# Altium schematic symbol library TI Microcontroller 32-Bit ARM.SchLib: 163 symbols (part 1 of 10)
Pins are listed as number, name and electrical type; pins without a type are passive.

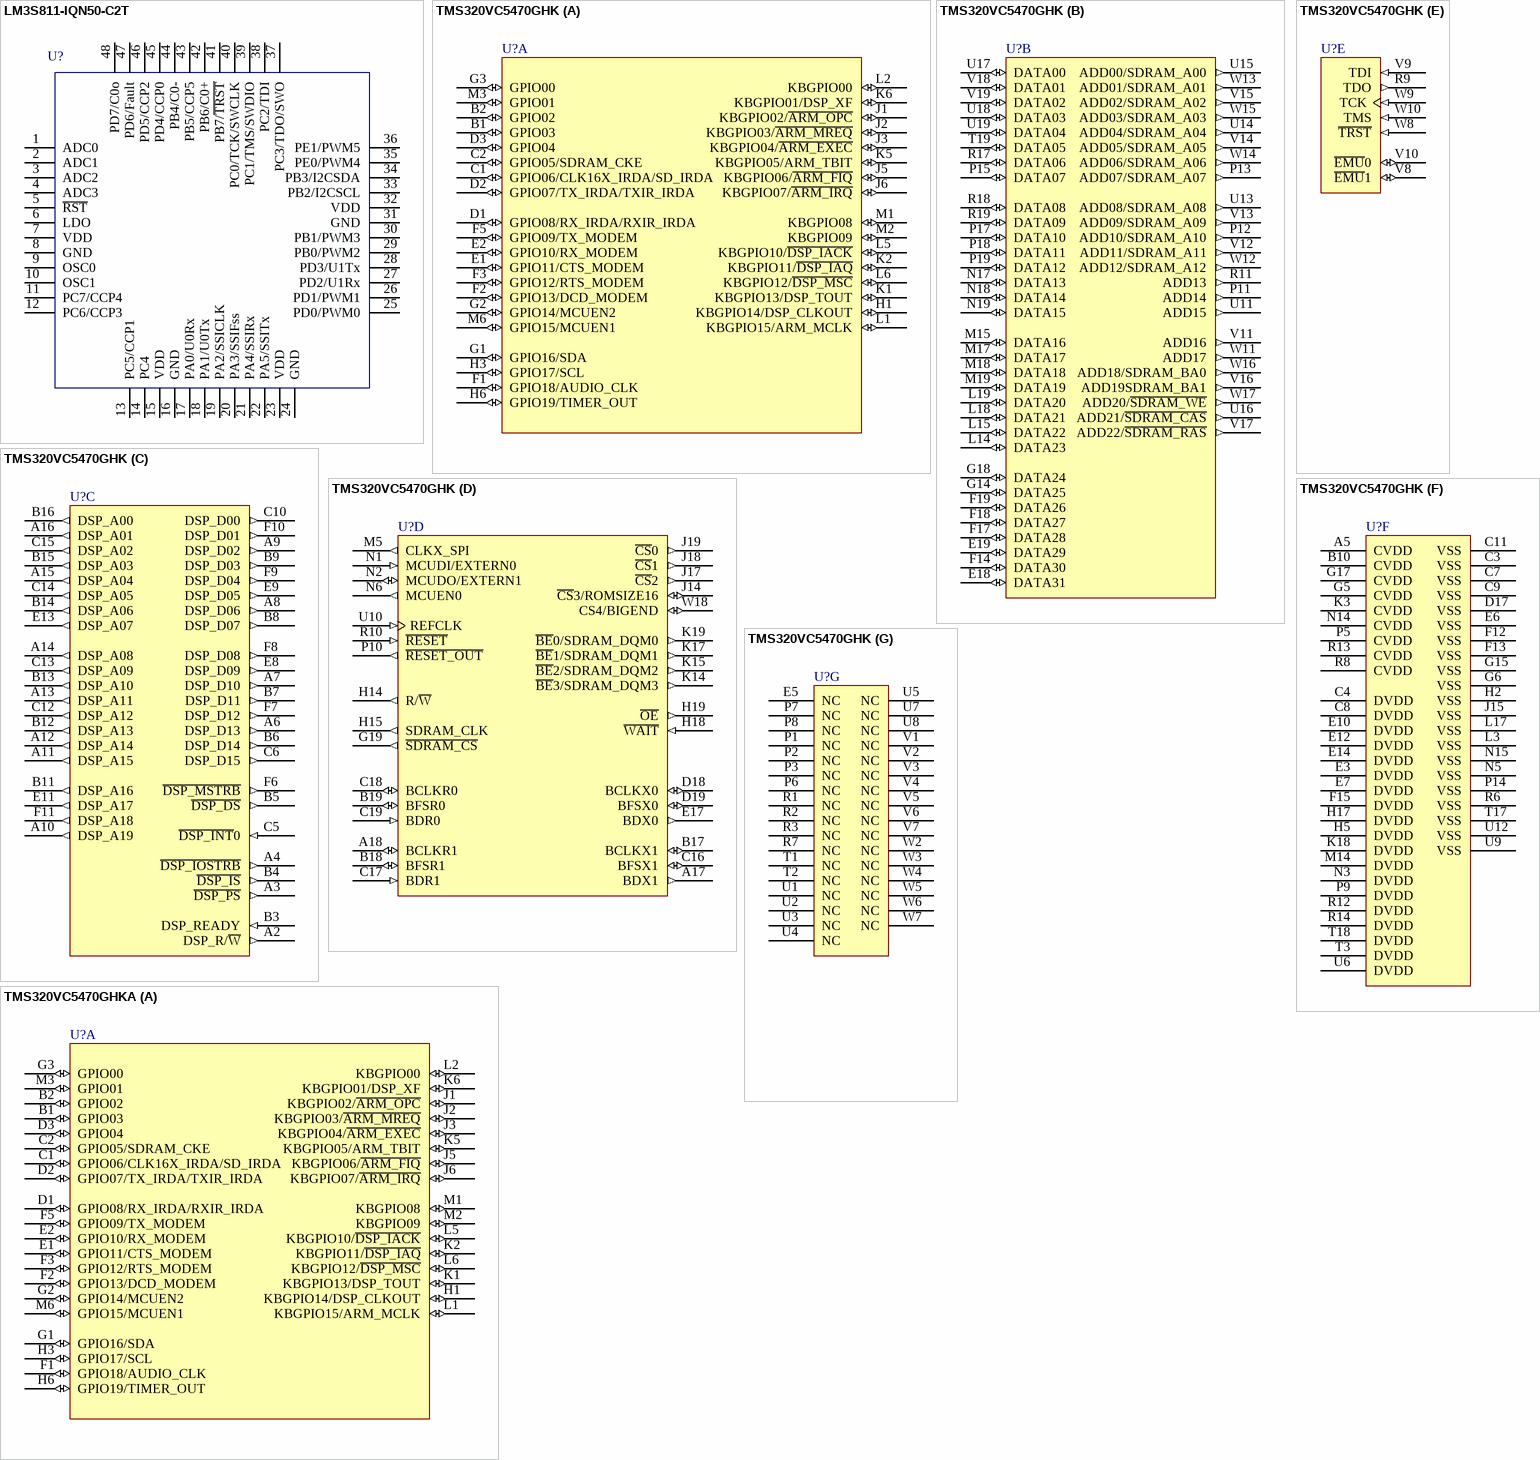
[diagram p0: symbols LM3S811-IQN50-C2T to TMS320VC5470GHKA]

## LM3S811-IQN50-C2T
designator U?
ARM? Cortex?-M3 Stellaris? ARM? Cortex?-M3S 800 Microcontroller IC 32-Bit 50MHz 64KB (64K x 8) FLASH 48-LQFP (7x7); Manufacturer: Texas Instruments; PartNumber: LM3S811-IQN50-C2T; Package: 48-LQFP; PackageDescription: 48-LQFP (7x7); Supplier 1: Digi-Key; Supplier Part Number 1: LM3S811-IQN50-C2T-ND
footprint LQFP-48 (TSQFP, 48-Leads, Body 9.0x9.0mm (max), Pitch 0.50mm, IPC Medium Density)
pins: 1 ADC0, 2 ADC1, 3 ADC2, 4 ADC3, 5 ~{RST}, 6 LDO, 7 VDD, 8 GND, 9 OSC0, 10 OSC1, 11 PC7/CCP4, 12 PC6/CCP3, 13 PC5/CCP1, 14 PC4, 15 VDD, 16 GND, 17 PA0/U0Rx, 18 PA1/U0Tx, 19 PA2/SSICLK, 20 PA3/SSIFss, 21 PA4/SSIRx, 22 PA5/SSITx, 23 VDD, 24 GND, 25 PD0/PWM0, 26 PD1/PWM1, 27 PD2/U1Rx, 28 PD3/U1Tx, 29 PB0/PWM2, 30 PB1/PWM3, 31 GND, 32 VDD, 33 PB2/I2CSCL, 34 PB3/I2CSDA, 35 PE0/PWM4, 36 PE1/PWM5, 37 PC3/TDO/SWO, 38 PC2/TDI, 39 PC1/TMS/SWDIO, 40 PC0/TCK/SWCLK, 41 PB7/~{TRST}, 42 PB6/C0+, 43 PB5/CCP5, 44 PB4/C0-, 45 PD4/CCP0, 46 PD5/CCP2, 47 PD6/Fault, 48 PD7/C0o

## TMS320VC5470GHK
designator U?
TMS320C54x DSP and ARM7TDMI 16/32-Bit RISC MCU, 72K x 16-bit SRAM, 257-ball BGA; Published: 30-Mar-2007; DatasheetVersion: revB, Dec-2002; PackageVersion: May-2005; PackageReference: GHK257; Publisher: Altium Limited; PackageDescription: 257-Ball Plastic Ball Grid Array 0.8 mm Pitch; ComponentLink1Description: Manufacturer Link; ComponentLink1URL: http://www.ti.com/; ComponentLink2Description: Datasheet; ComponentLink2URL: http://focus.ti.com/lit/ds/symlink/tms320vc5470.pdf
footprint GHK257 (BGA, 257-Leads, Body 16x16mm, Pitch 0.8mm)
part A pins: B1 GPIO03 (io), B2 GPIO02 (io), C1 GPIO06/CLK16X_IRDA/SD_IRDA (io), C2 GPIO05/SDRAM_CKE (io), D1 GPIO08/RX_IRDA/RXIR_IRDA (io), D2 GPIO07/TX_IRDA/TXIR_IRDA (io), D3 GPIO04 (io), E1 GPIO11/CTS_MODEM (io), E2 GPIO10/RX_MODEM (io), F1 GPIO18/AUDIO_CLK (io), F2 GPIO13/DCD_MODEM (io), F3 GPIO12/RTS_MODEM (io), F5 GPIO09/TX_MODEM (io), G1 GPIO16/SDA (io), G2 GPIO14/MCUEN2 (io), G3 GPIO00 (io), H1 KBGPIO14/DSP_CLKOUT (io), H3 GPIO17/SCL (io), H6 GPIO19/TIMER_OUT (io), J1 KBGPIO02/~{ARM_OPC} (io), J2 KBGPIO03/~{ARM_MREQ} (io), J3 KBGPIO04/~{ARM_EXEC} (io), J5 KBGPIO06/~{ARM_FIQ} (io), J6 KBGPIO07/~{ARM_IRQ} (io), K1 KBGPIO13/DSP_TOUT (io), K2 KBGPIO11/~{DSP_IAQ} (io), K5 KBGPIO05/ARM_TBIT (io), K6 KBGPIO01/DSP_XF (io), L1 KBGPIO15/ARM_MCLK (io), L2 KBGPIO00 (io), L5 KBGPIO10/~{DSP_IACK} (io), L6 KBGPIO12/~{DSP_MSC} (io), M1 KBGPIO08 (io), M2 KBGPIO09 (io), M3 GPIO01 (io), M6 GPIO15/MCUEN1 (io)
part B pins: E18 DATA31 (io), E19 DATA29 (io), F14 DATA30 (io), F17 DATA28 (io), F18 DATA27 (io), F19 DATA26 (io), G14 DATA25 (io), G18 DATA24 (io), L14 DATA23 (io), L15 DATA22 (io), L18 DATA21 (io), L19 DATA20 (io), M15 DATA16 (io), M17 DATA17 (io), M18 DATA18 (io), M19 DATA19 (io), N17 DATA13 (io), N18 DATA14 (io), N19 DATA15 (io), P11 ADD14 (out), P12 ADD10/SDRAM_A10 (out), P13 ADD07/SDRAM_A07 (out), P15 DATA07 (io), P17 DATA10 (io), P18 DATA11 (io), P19 DATA12 (io), R11 ADD13 (out), R17 DATA06 (io), R18 DATA08 (io), R19 DATA09 (io), T19 DATA05 (io), U11 ADD15 (out), U13 ADD08/SDRAM_A08 (out), U14 ADD04/SDRAM_A04 (out), U15 ADD00/SDRAM_A00 (out), U16 ADD21/~{SDRAM_CAS} (out), U17 DATA00 (io), U18 DATA03 (io), U19 DATA04 (io), V11 ADD16 (out), V12 ADD11/SDRAM_A11 (out), V13 ADD09/SDRAM_A09 (out), V14 ADD05/SDRAM_A05 (out), V15 ADD02/SDRAM_A02 (out), V16 ADD19SDRAM_BA1 (out), V17 ADD22/~{SDRAM_RAS} (out), V18 DATA01 (io), V19 DATA02 (io), W11 ADD17 (out), W12 ADD12/SDRAM_A12 (out), W13 ADD01/SDRAM_A01 (out), W14 ADD06/SDRAM_A06 (out), W15 ADD03/SDRAM_A03 (out), W16 ADD18/SDRAM_BA0 (out), W17 ADD20/~{SDRAM_WE} (out)
part C pins: A2 DSP_R/~{W} (out), A3 ~{DSP_PS} (out), A4 ~{DSP_IOSTRB} (out), A6 DSP_D13 (out), A7 DSP_D10 (out), A8 DSP_D06 (out), A9 DSP_D02 (out), A10 DSP_A19 (out), A11 DSP_A15 (out), A12 DSP_A14 (out), A13 DSP_A11 (out), A14 DSP_A08 (out), A15 DSP_A04 (out), A16 DSP_A01 (out), B3 DSP_READY (in), B4 ~{DSP_IS} (out), B5 ~{DSP_DS} (out), B6 DSP_D14 (out), B7 DSP_D11 (out), B8 DSP_D07 (out), B9 DSP_D03 (out), B11 DSP_A16 (out), B12 DSP_A13 (out), B13 DSP_A10 (out), B14 DSP_A06 (out), B15 DSP_A03 (out), B16 DSP_A00 (out), C5 ~{DSP_INT}0 (in), C6 DSP_D15 (out), C10 DSP_D00 (out), C12 DSP_A12 (out), C13 DSP_A09 (out), C14 DSP_A05 (out), C15 DSP_A02 (out), E8 DSP_D09 (out), E9 DSP_D05 (out), E11 DSP_A17 (out), E13 DSP_A07 (out), F6 ~{DSP_MSTRB} (out), F7 DSP_D12 (out), F8 DSP_D08 (out), F9 DSP_D04 (out), F10 DSP_D01 (out), F11 DSP_A18 (out)
part D pins: A17 BDX1 (out), A18 BCLKR1 (io), B17 BCLKX1 (io), B18 BFSR1 (io), B19 BFSR0 (io), C16 BFSX1 (io), C17 BDR1 (in), C18 BCLKR0 (io), C19 BDR0 (in), D18 BCLKX0 (io), D19 BFSX0 (io), E17 BDX0 (out), G19 ~{SDRAM_CS} (out), H14 R/~{W} (out), H15 SDRAM_CLK (out), H18 ~{WAIT} (in), H19 ~{OE} (out), J14 ~{CS}3/ROMSIZE16 (io), J17 ~{CS}2 (out), J18 ~{CS}1 (out), J19 ~{CS}0 (out), K14 ~{BE}3/SDRAM_DQM3 (out), K15 ~{BE}2/SDRAM_DQM2 (out), K17 ~{BE}1/SDRAM_DQM1 (out), K19 ~{BE}0/SDRAM_DQM0 (out), M5 CLKX_SPI (out), N1 MCUDI/EXTERN0 (in), N2 MCUDO/EXTERN1 (io), N6 MCUEN0 (out), P10 ~{RESET_OUT} (out), R10 ~{RESET} (in), U10 REFCLK (in), W18 CS4/BIGEND (io)
part E pins: R9 TDO (out), V8 ~{EMU}1 (io), V9 TDI (in), V10 ~{EMU}0 (io), W8 ~{TRST} (in), W9 TCK (in), W10 TMS (in)
part F pins: A5 CVDD (power), B10 CVDD (power), C3 VSS (power), C4 DVDD (power), C7 VSS (power), C8 DVDD (power), C9 VSS (power), C11 VSS (power), D17 VSS (power), E3 DVDD (power), E6 VSS (power), E7 DVDD (power), E10 DVDD (power), E12 DVDD (power), E14 DVDD (power), F12 VSS (power), F13 VSS (power), F15 DVDD (power), G5 CVDD (power), G6 VSS (power), G15 VSS (power), G17 CVDD (power), H2 VSS (power), H5 DVDD (power), H17 DVDD (power), J15 VSS (power), K3 CVDD (power), K18 DVDD (power), L3 VSS (power), L17 VSS (power), M14 DVDD (power), N3 DVDD (power), N5 VSS (power), N14 CVDD (power), N15 VSS (power), P5 CVDD (power), P9 DVDD (power), P14 VSS (power), R6 VSS (power), R8 CVDD (power), R12 DVDD (power), R13 CVDD (power), R14 DVDD (power), T3 DVDD (power), T17 VSS (power), T18 DVDD (power), U6 DVDD (power), U9 VSS (power), U12 VSS (power)
part G pins: E5 NC, P1 NC, P2 NC, P3 NC, P6 NC, P7 NC, P8 NC, R1 NC, R2 NC, R3 NC, R7 NC, T1 NC, T2 NC, U1 NC, U2 NC, U3 NC, U4 NC, U5 NC, U7 NC, U8 NC, V1 NC, V2 NC, V3 NC, V4 NC, V5 NC, V6 NC, V7 NC, W2 NC, W3 NC, W4 NC, W5 NC, W6 NC, W7 NC

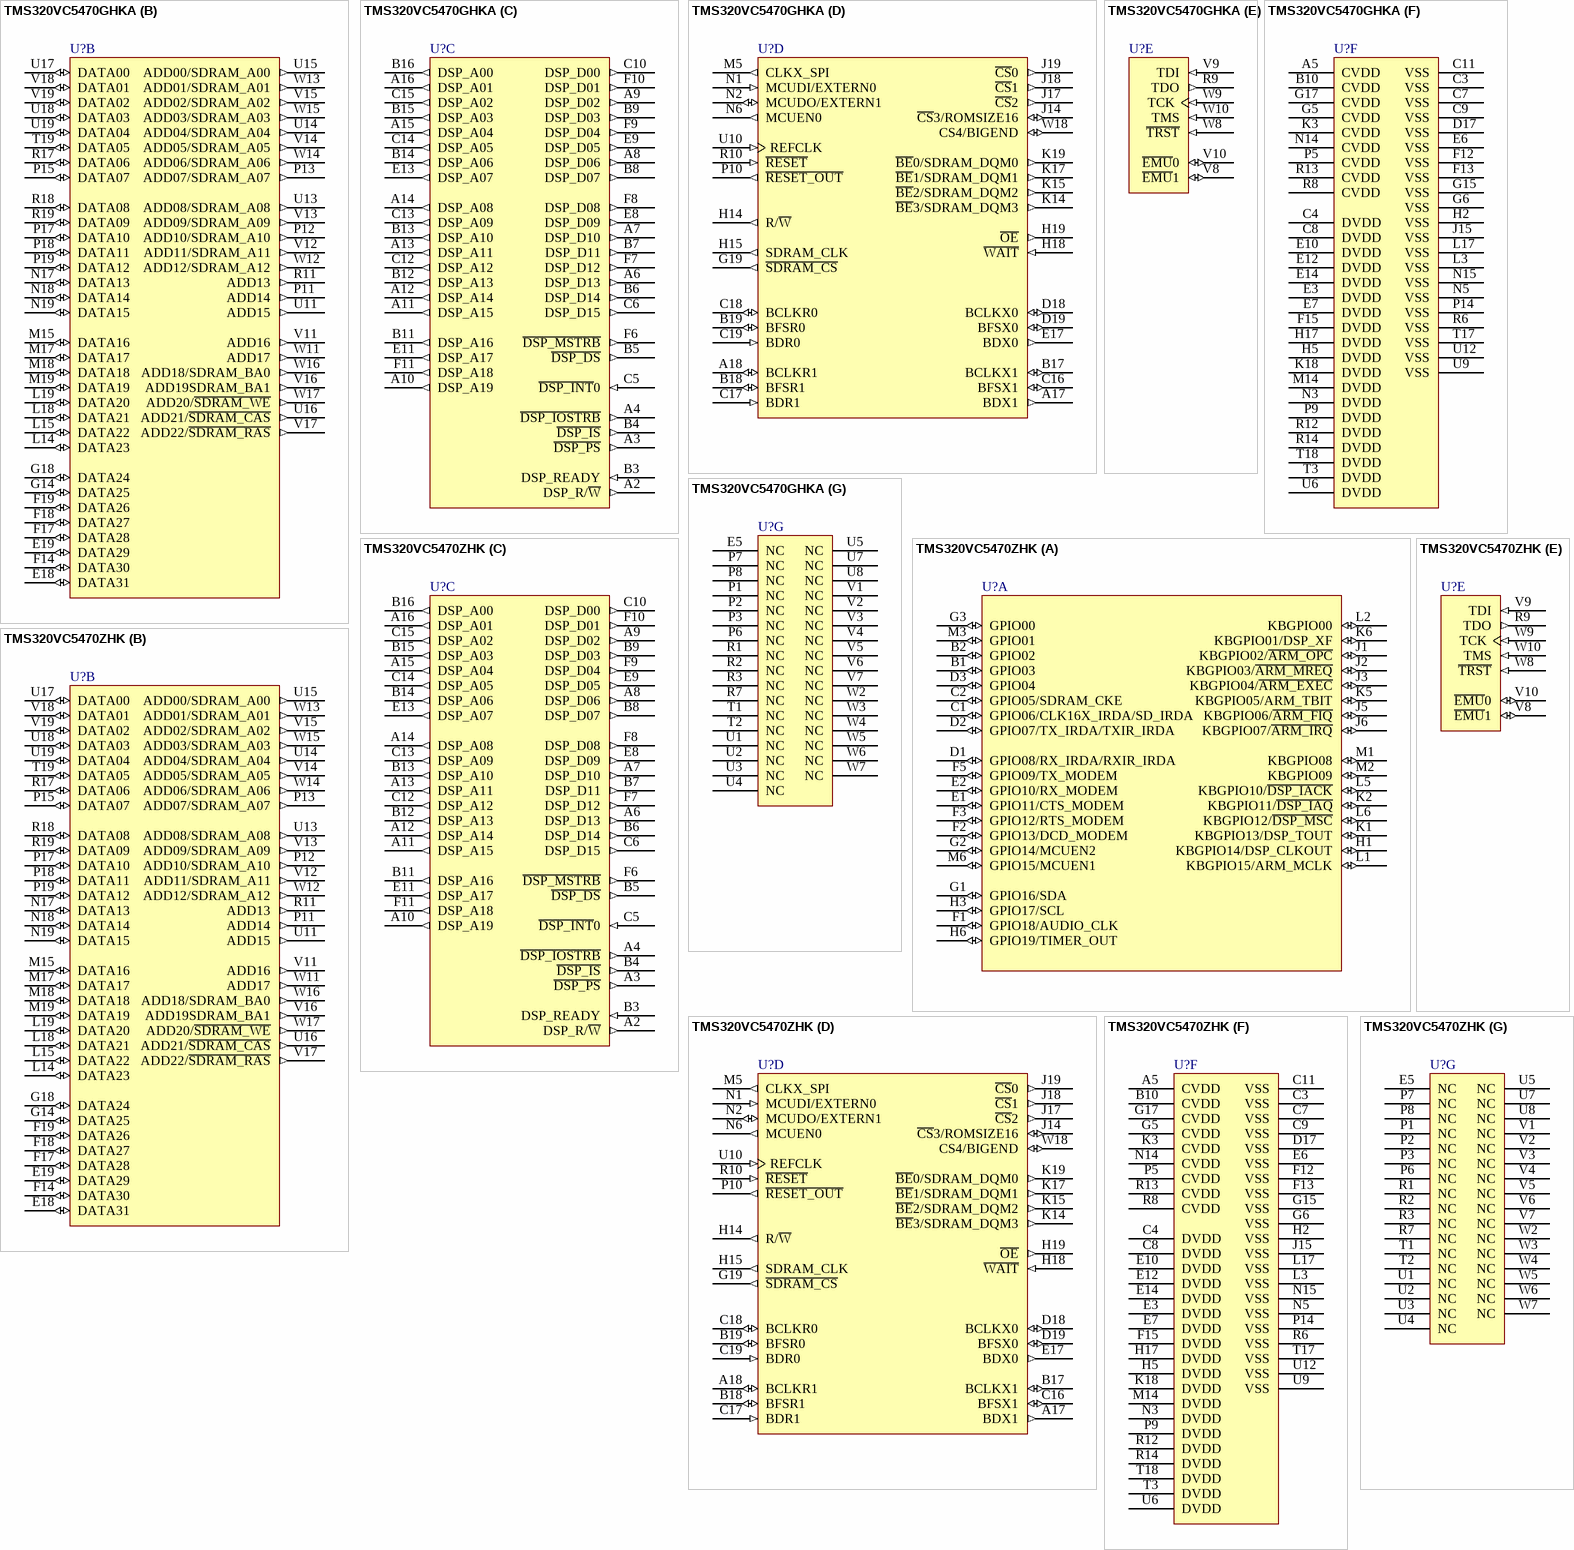
[diagram p1: symbols TMS320VC5470GHKA to TMS320VC5470ZHK]

## TMS320VC5470GHKA
designator U?
TMS320C54x DSP and ARM7TDMI 16/32-Bit RISC MCU, 72K x 16-bit SRAM, 257-ball BGA; Published: 30-Mar-2007; DatasheetVersion: revB, Dec-2002; PackageVersion: May-2005; PackageReference: GHK257; Publisher: Altium Limited; PackageDescription: 257-Ball Plastic Ball Grid Array 0.8 mm Pitch; ComponentLink1Description: Manufacturer Link; ComponentLink1URL: http://www.ti.com/; ComponentLink2Description: Datasheet; ComponentLink2URL: http://focus.ti.com/lit/ds/symlink/tms320vc5470.pdf
footprint GHK257 (BGA, 257-Leads, Body 16x16mm, Pitch 0.8mm)
part A pins: B1 GPIO03 (io), B2 GPIO02 (io), C1 GPIO06/CLK16X_IRDA/SD_IRDA (io), C2 GPIO05/SDRAM_CKE (io), D1 GPIO08/RX_IRDA/RXIR_IRDA (io), D2 GPIO07/TX_IRDA/TXIR_IRDA (io), D3 GPIO04 (io), E1 GPIO11/CTS_MODEM (io), E2 GPIO10/RX_MODEM (io), F1 GPIO18/AUDIO_CLK (io), F2 GPIO13/DCD_MODEM (io), F3 GPIO12/RTS_MODEM (io), F5 GPIO09/TX_MODEM (io), G1 GPIO16/SDA (io), G2 GPIO14/MCUEN2 (io), G3 GPIO00 (io), H1 KBGPIO14/DSP_CLKOUT (io), H3 GPIO17/SCL (io), H6 GPIO19/TIMER_OUT (io), J1 KBGPIO02/~{ARM_OPC} (io), J2 KBGPIO03/~{ARM_MREQ} (io), J3 KBGPIO04/~{ARM_EXEC} (io), J5 KBGPIO06/~{ARM_FIQ} (io), J6 KBGPIO07/~{ARM_IRQ} (io), K1 KBGPIO13/DSP_TOUT (io), K2 KBGPIO11/~{DSP_IAQ} (io), K5 KBGPIO05/ARM_TBIT (io), K6 KBGPIO01/DSP_XF (io), L1 KBGPIO15/ARM_MCLK (io), L2 KBGPIO00 (io), L5 KBGPIO10/~{DSP_IACK} (io), L6 KBGPIO12/~{DSP_MSC} (io), M1 KBGPIO08 (io), M2 KBGPIO09 (io), M3 GPIO01 (io), M6 GPIO15/MCUEN1 (io)
part B pins: E18 DATA31 (io), E19 DATA29 (io), F14 DATA30 (io), F17 DATA28 (io), F18 DATA27 (io), F19 DATA26 (io), G14 DATA25 (io), G18 DATA24 (io), L14 DATA23 (io), L15 DATA22 (io), L18 DATA21 (io), L19 DATA20 (io), M15 DATA16 (io), M17 DATA17 (io), M18 DATA18 (io), M19 DATA19 (io), N17 DATA13 (io), N18 DATA14 (io), N19 DATA15 (io), P11 ADD14 (out), P12 ADD10/SDRAM_A10 (out), P13 ADD07/SDRAM_A07 (out), P15 DATA07 (io), P17 DATA10 (io), P18 DATA11 (io), P19 DATA12 (io), R11 ADD13 (out), R17 DATA06 (io), R18 DATA08 (io), R19 DATA09 (io), T19 DATA05 (io), U11 ADD15 (out), U13 ADD08/SDRAM_A08 (out), U14 ADD04/SDRAM_A04 (out), U15 ADD00/SDRAM_A00 (out), U16 ADD21/~{SDRAM_CAS} (out), U17 DATA00 (io), U18 DATA03 (io), U19 DATA04 (io), V11 ADD16 (out), V12 ADD11/SDRAM_A11 (out), V13 ADD09/SDRAM_A09 (out), V14 ADD05/SDRAM_A05 (out), V15 ADD02/SDRAM_A02 (out), V16 ADD19SDRAM_BA1 (out), V17 ADD22/~{SDRAM_RAS} (out), V18 DATA01 (io), V19 DATA02 (io), W11 ADD17 (out), W12 ADD12/SDRAM_A12 (out), W13 ADD01/SDRAM_A01 (out), W14 ADD06/SDRAM_A06 (out), W15 ADD03/SDRAM_A03 (out), W16 ADD18/SDRAM_BA0 (out), W17 ADD20/~{SDRAM_WE} (out)
part C pins: A2 DSP_R/~{W} (out), A3 ~{DSP_PS} (out), A4 ~{DSP_IOSTRB} (out), A6 DSP_D13 (out), A7 DSP_D10 (out), A8 DSP_D06 (out), A9 DSP_D02 (out), A10 DSP_A19 (out), A11 DSP_A15 (out), A12 DSP_A14 (out), A13 DSP_A11 (out), A14 DSP_A08 (out), A15 DSP_A04 (out), A16 DSP_A01 (out), B3 DSP_READY (in), B4 ~{DSP_IS} (out), B5 ~{DSP_DS} (out), B6 DSP_D14 (out), B7 DSP_D11 (out), B8 DSP_D07 (out), B9 DSP_D03 (out), B11 DSP_A16 (out), B12 DSP_A13 (out), B13 DSP_A10 (out), B14 DSP_A06 (out), B15 DSP_A03 (out), B16 DSP_A00 (out), C5 ~{DSP_INT}0 (in), C6 DSP_D15 (out), C10 DSP_D00 (out), C12 DSP_A12 (out), C13 DSP_A09 (out), C14 DSP_A05 (out), C15 DSP_A02 (out), E8 DSP_D09 (out), E9 DSP_D05 (out), E11 DSP_A17 (out), E13 DSP_A07 (out), F6 ~{DSP_MSTRB} (out), F7 DSP_D12 (out), F8 DSP_D08 (out), F9 DSP_D04 (out), F10 DSP_D01 (out), F11 DSP_A18 (out)
part D pins: A17 BDX1 (out), A18 BCLKR1 (io), B17 BCLKX1 (io), B18 BFSR1 (io), B19 BFSR0 (io), C16 BFSX1 (io), C17 BDR1 (in), C18 BCLKR0 (io), C19 BDR0 (in), D18 BCLKX0 (io), D19 BFSX0 (io), E17 BDX0 (out), G19 ~{SDRAM_CS} (out), H14 R/~{W} (out), H15 SDRAM_CLK (out), H18 ~{WAIT} (in), H19 ~{OE} (out), J14 ~{CS}3/ROMSIZE16 (io), J17 ~{CS}2 (out), J18 ~{CS}1 (out), J19 ~{CS}0 (out), K14 ~{BE}3/SDRAM_DQM3 (out), K15 ~{BE}2/SDRAM_DQM2 (out), K17 ~{BE}1/SDRAM_DQM1 (out), K19 ~{BE}0/SDRAM_DQM0 (out), M5 CLKX_SPI (out), N1 MCUDI/EXTERN0 (in), N2 MCUDO/EXTERN1 (io), N6 MCUEN0 (out), P10 ~{RESET_OUT} (out), R10 ~{RESET} (in), U10 REFCLK (in), W18 CS4/BIGEND (io)
part E pins: R9 TDO (out), V8 ~{EMU}1 (io), V9 TDI (in), V10 ~{EMU}0 (io), W8 ~{TRST} (in), W9 TCK (in), W10 TMS (in)
part F pins: A5 CVDD (power), B10 CVDD (power), C3 VSS (power), C4 DVDD (power), C7 VSS (power), C8 DVDD (power), C9 VSS (power), C11 VSS (power), D17 VSS (power), E3 DVDD (power), E6 VSS (power), E7 DVDD (power), E10 DVDD (power), E12 DVDD (power), E14 DVDD (power), F12 VSS (power), F13 VSS (power), F15 DVDD (power), G5 CVDD (power), G6 VSS (power), G15 VSS (power), G17 CVDD (power), H2 VSS (power), H5 DVDD (power), H17 DVDD (power), J15 VSS (power), K3 CVDD (power), K18 DVDD (power), L3 VSS (power), L17 VSS (power), M14 DVDD (power), N3 DVDD (power), N5 VSS (power), N14 CVDD (power), N15 VSS (power), P5 CVDD (power), P9 DVDD (power), P14 VSS (power), R6 VSS (power), R8 CVDD (power), R12 DVDD (power), R13 CVDD (power), R14 DVDD (power), T3 DVDD (power), T17 VSS (power), T18 DVDD (power), U6 DVDD (power), U9 VSS (power), U12 VSS (power)
part G pins: E5 NC, P1 NC, P2 NC, P3 NC, P6 NC, P7 NC, P8 NC, R1 NC, R2 NC, R3 NC, R7 NC, T1 NC, T2 NC, U1 NC, U2 NC, U3 NC, U4 NC, U5 NC, U7 NC, U8 NC, V1 NC, V2 NC, V3 NC, V4 NC, V5 NC, V6 NC, V7 NC, W2 NC, W3 NC, W4 NC, W5 NC, W6 NC, W7 NC

## TMS320VC5470ZHK
designator U?
TMS320C54x DSP and ARM7TDMI 16/32-Bit RISC MCU, 72K x 16-bit SRAM, 257-ball BGA, Pb-Free; Published: 30-Mar-2007; DatasheetVersion: revB, Dec-2002; PackageVersion: Feb-2006; PackageReference: ZHK257; Publisher: Altium Limited; PackageDescription: 257-Ball Plastic Ball Grid Array 0.8 mm Pitch - Pb-Free; ComponentLink1Description: Manufacturer Link; ComponentLink1URL: http://www.ti.com/; ComponentLink2Description: Datasheet; ComponentLink2URL: http://focus.ti.com/lit/ds/symlink/tms320vc5470.pdf
footprint ZHK257 (BGA, 257-Leads, Body 16x16mm, Pitch 0.8mm)
part A pins: B1 GPIO03 (io), B2 GPIO02 (io), C1 GPIO06/CLK16X_IRDA/SD_IRDA (io), C2 GPIO05/SDRAM_CKE (io), D1 GPIO08/RX_IRDA/RXIR_IRDA (io), D2 GPIO07/TX_IRDA/TXIR_IRDA (io), D3 GPIO04 (io), E1 GPIO11/CTS_MODEM (io), E2 GPIO10/RX_MODEM (io), F1 GPIO18/AUDIO_CLK (io), F2 GPIO13/DCD_MODEM (io), F3 GPIO12/RTS_MODEM (io), F5 GPIO09/TX_MODEM (io), G1 GPIO16/SDA (io), G2 GPIO14/MCUEN2 (io), G3 GPIO00 (io), H1 KBGPIO14/DSP_CLKOUT (io), H3 GPIO17/SCL (io), H6 GPIO19/TIMER_OUT (io), J1 KBGPIO02/~{ARM_OPC} (io), J2 KBGPIO03/~{ARM_MREQ} (io), J3 KBGPIO04/~{ARM_EXEC} (io), J5 KBGPIO06/~{ARM_FIQ} (io), J6 KBGPIO07/~{ARM_IRQ} (io), K1 KBGPIO13/DSP_TOUT (io), K2 KBGPIO11/~{DSP_IAQ} (io), K5 KBGPIO05/ARM_TBIT (io), K6 KBGPIO01/DSP_XF (io), L1 KBGPIO15/ARM_MCLK (io), L2 KBGPIO00 (io), L5 KBGPIO10/~{DSP_IACK} (io), L6 KBGPIO12/~{DSP_MSC} (io), M1 KBGPIO08 (io), M2 KBGPIO09 (io), M3 GPIO01 (io), M6 GPIO15/MCUEN1 (io)
part B pins: E18 DATA31 (io), E19 DATA29 (io), F14 DATA30 (io), F17 DATA28 (io), F18 DATA27 (io), F19 DATA26 (io), G14 DATA25 (io), G18 DATA24 (io), L14 DATA23 (io), L15 DATA22 (io), L18 DATA21 (io), L19 DATA20 (io), M15 DATA16 (io), M17 DATA17 (io), M18 DATA18 (io), M19 DATA19 (io), N17 DATA13 (io), N18 DATA14 (io), N19 DATA15 (io), P11 ADD14 (out), P12 ADD10/SDRAM_A10 (out), P13 ADD07/SDRAM_A07 (out), P15 DATA07 (io), P17 DATA10 (io), P18 DATA11 (io), P19 DATA12 (io), R11 ADD13 (out), R17 DATA06 (io), R18 DATA08 (io), R19 DATA09 (io), T19 DATA05 (io), U11 ADD15 (out), U13 ADD08/SDRAM_A08 (out), U14 ADD04/SDRAM_A04 (out), U15 ADD00/SDRAM_A00 (out), U16 ADD21/~{SDRAM_CAS} (out), U17 DATA00 (io), U18 DATA03 (io), U19 DATA04 (io), V11 ADD16 (out), V12 ADD11/SDRAM_A11 (out), V13 ADD09/SDRAM_A09 (out), V14 ADD05/SDRAM_A05 (out), V15 ADD02/SDRAM_A02 (out), V16 ADD19SDRAM_BA1 (out), V17 ADD22/~{SDRAM_RAS} (out), V18 DATA01 (io), V19 DATA02 (io), W11 ADD17 (out), W12 ADD12/SDRAM_A12 (out), W13 ADD01/SDRAM_A01 (out), W14 ADD06/SDRAM_A06 (out), W15 ADD03/SDRAM_A03 (out), W16 ADD18/SDRAM_BA0 (out), W17 ADD20/~{SDRAM_WE} (out)
part C pins: A2 DSP_R/~{W} (out), A3 ~{DSP_PS} (out), A4 ~{DSP_IOSTRB} (out), A6 DSP_D13 (out), A7 DSP_D10 (out), A8 DSP_D06 (out), A9 DSP_D02 (out), A10 DSP_A19 (out), A11 DSP_A15 (out), A12 DSP_A14 (out), A13 DSP_A11 (out), A14 DSP_A08 (out), A15 DSP_A04 (out), A16 DSP_A01 (out), B3 DSP_READY (in), B4 ~{DSP_IS} (out), B5 ~{DSP_DS} (out), B6 DSP_D14 (out), B7 DSP_D11 (out), B8 DSP_D07 (out), B9 DSP_D03 (out), B11 DSP_A16 (out), B12 DSP_A13 (out), B13 DSP_A10 (out), B14 DSP_A06 (out), B15 DSP_A03 (out), B16 DSP_A00 (out), C5 ~{DSP_INT}0 (in), C6 DSP_D15 (out), C10 DSP_D00 (out), C12 DSP_A12 (out), C13 DSP_A09 (out), C14 DSP_A05 (out), C15 DSP_A02 (out), E8 DSP_D09 (out), E9 DSP_D05 (out), E11 DSP_A17 (out), E13 DSP_A07 (out), F6 ~{DSP_MSTRB} (out), F7 DSP_D12 (out), F8 DSP_D08 (out), F9 DSP_D04 (out), F10 DSP_D01 (out), F11 DSP_A18 (out)
part D pins: A17 BDX1 (out), A18 BCLKR1 (io), B17 BCLKX1 (io), B18 BFSR1 (io), B19 BFSR0 (io), C16 BFSX1 (io), C17 BDR1 (in), C18 BCLKR0 (io), C19 BDR0 (in), D18 BCLKX0 (io), D19 BFSX0 (io), E17 BDX0 (out), G19 ~{SDRAM_CS} (out), H14 R/~{W} (out), H15 SDRAM_CLK (out), H18 ~{WAIT} (in), H19 ~{OE} (out), J14 ~{CS}3/ROMSIZE16 (io), J17 ~{CS}2 (out), J18 ~{CS}1 (out), J19 ~{CS}0 (out), K14 ~{BE}3/SDRAM_DQM3 (out), K15 ~{BE}2/SDRAM_DQM2 (out), K17 ~{BE}1/SDRAM_DQM1 (out), K19 ~{BE}0/SDRAM_DQM0 (out), M5 CLKX_SPI (out), N1 MCUDI/EXTERN0 (in), N2 MCUDO/EXTERN1 (io), N6 MCUEN0 (out), P10 ~{RESET_OUT} (out), R10 ~{RESET} (in), U10 REFCLK (in), W18 CS4/BIGEND (io)
part E pins: R9 TDO (out), V8 ~{EMU}1 (io), V9 TDI (in), V10 ~{EMU}0 (io), W8 ~{TRST} (in), W9 TCK (in), W10 TMS (in)
part F pins: A5 CVDD (power), B10 CVDD (power), C3 VSS (power), C4 DVDD (power), C7 VSS (power), C8 DVDD (power), C9 VSS (power), C11 VSS (power), D17 VSS (power), E3 DVDD (power), E6 VSS (power), E7 DVDD (power), E10 DVDD (power), E12 DVDD (power), E14 DVDD (power), F12 VSS (power), F13 VSS (power), F15 DVDD (power), G5 CVDD (power), G6 VSS (power), G15 VSS (power), G17 CVDD (power), H2 VSS (power), H5 DVDD (power), H17 DVDD (power), J15 VSS (power), K3 CVDD (power), K18 DVDD (power), L3 VSS (power), L17 VSS (power), M14 DVDD (power), N3 DVDD (power), N5 VSS (power), N14 CVDD (power), N15 VSS (power), P5 CVDD (power), P9 DVDD (power), P14 VSS (power), R6 VSS (power), R8 CVDD (power), R12 DVDD (power), R13 CVDD (power), R14 DVDD (power), T3 DVDD (power), T17 VSS (power), T18 DVDD (power), U6 DVDD (power), U9 VSS (power), U12 VSS (power)
part G pins: E5 NC, P1 NC, P2 NC, P3 NC, P6 NC, P7 NC, P8 NC, R1 NC, R2 NC, R3 NC, R7 NC, T1 NC, T2 NC, U1 NC, U2 NC, U3 NC, U4 NC, U5 NC, U7 NC, U8 NC, V1 NC, V2 NC, V3 NC, V4 NC, V5 NC, V6 NC, V7 NC, W2 NC, W3 NC, W4 NC, W5 NC, W6 NC, W7 NC

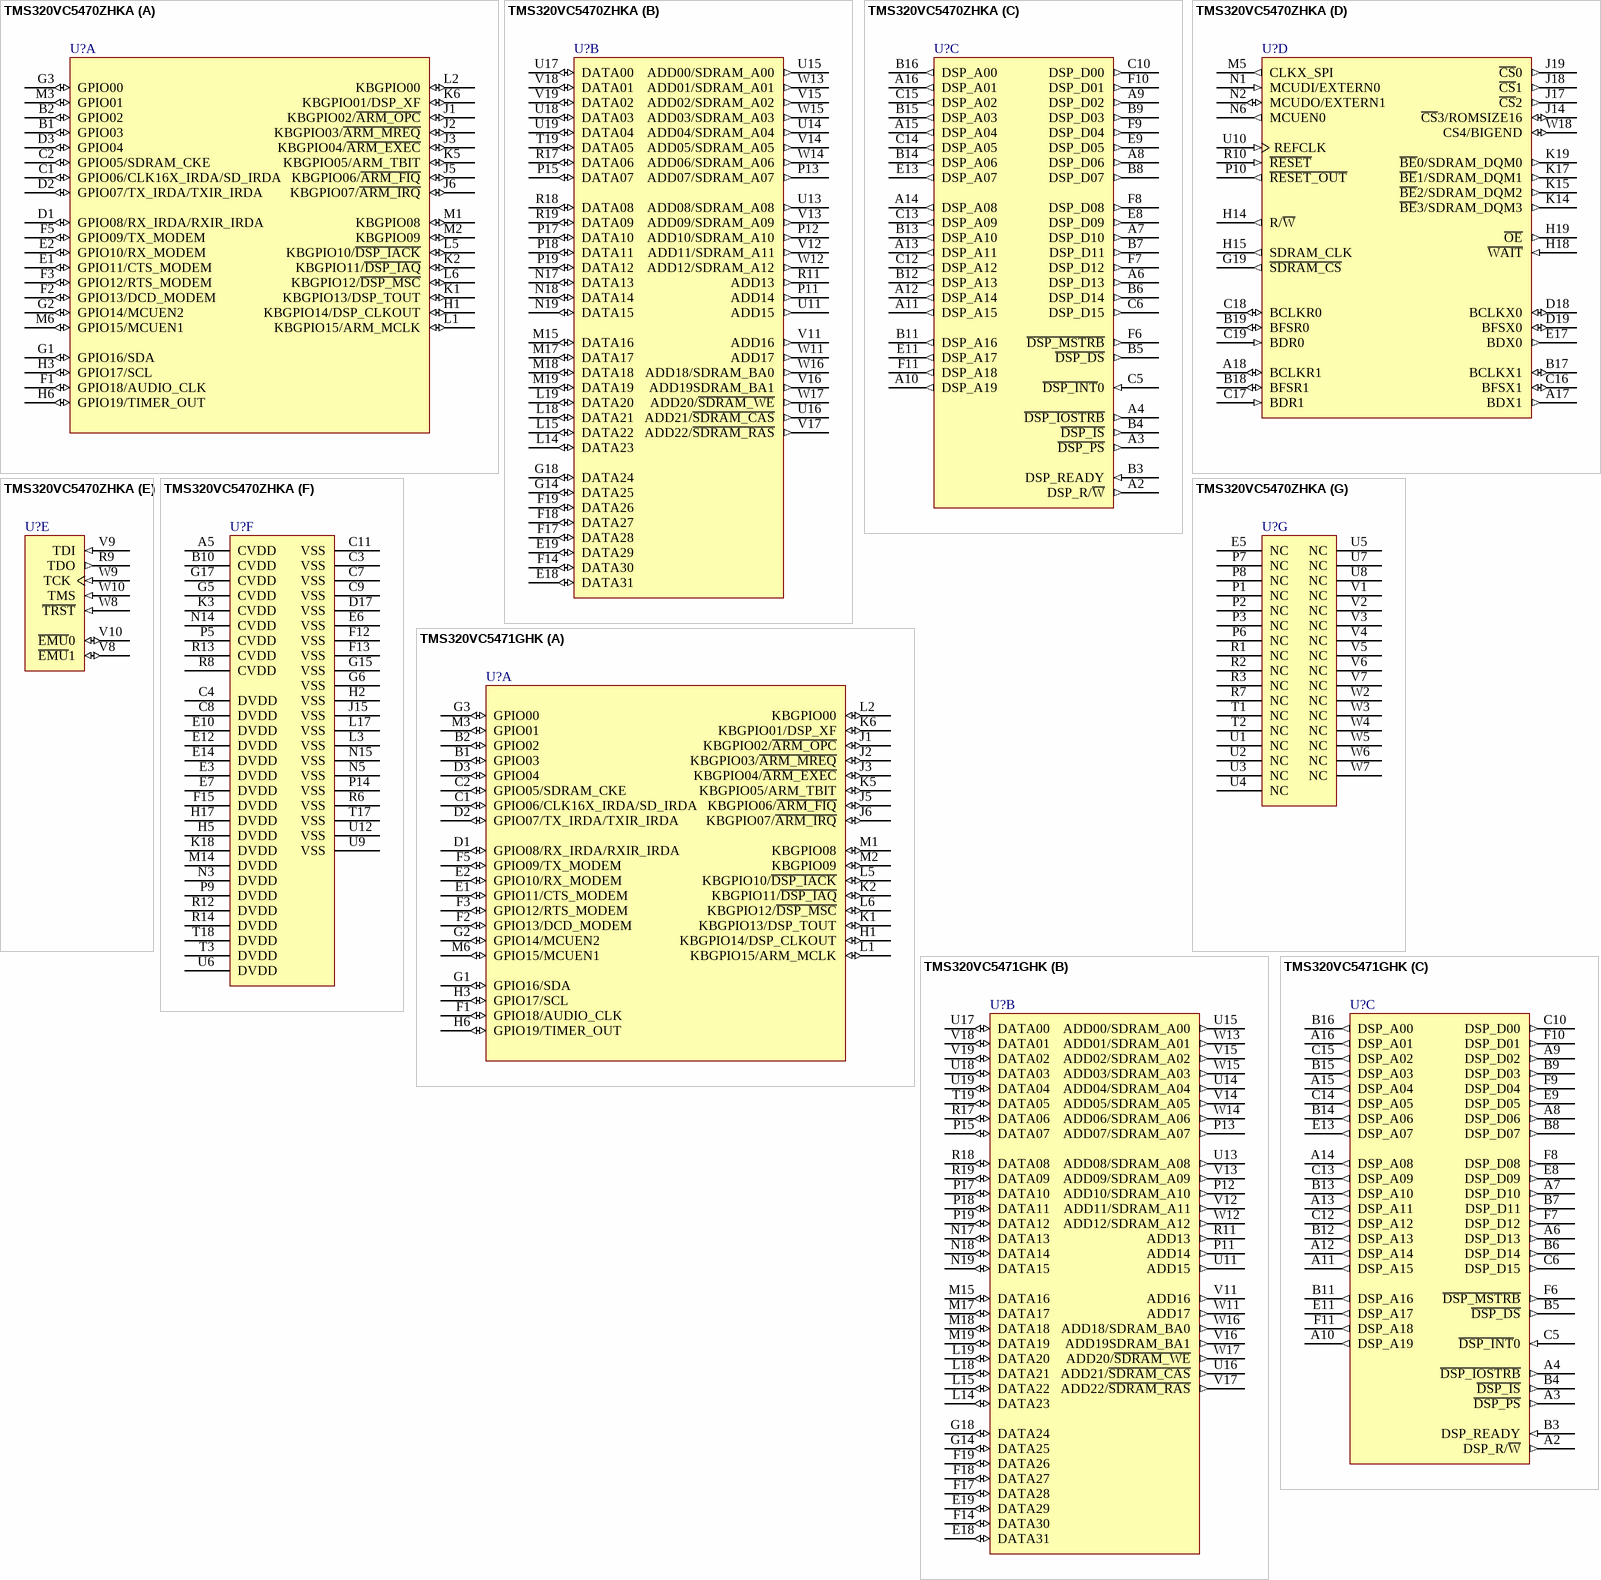
[diagram p2: symbols TMS320VC5470ZHKA to TMS320VC5471GHK]

## TMS320VC5470ZHKA
designator U?
TMS320C54x DSP and ARM7TDMI 16/32-Bit RISC MCU, 72K x 16-bit SRAM, 257-ball BGA, Pb-Free; Published: 30-Mar-2007; DatasheetVersion: revB, Dec-2002; PackageVersion: Feb-2006; PackageReference: ZHK257; Publisher: Altium Limited; PackageDescription: 257-Ball Plastic Ball Grid Array 0.8 mm Pitch - Pb-Free; ComponentLink1Description: Manufacturer Link; ComponentLink1URL: http://www.ti.com/; ComponentLink2Description: Datasheet; ComponentLink2URL: http://focus.ti.com/lit/ds/symlink/tms320vc5470.pdf
footprint ZHK257 (BGA, 257-Leads, Body 16x16mm, Pitch 0.8mm)
part A pins: B1 GPIO03 (io), B2 GPIO02 (io), C1 GPIO06/CLK16X_IRDA/SD_IRDA (io), C2 GPIO05/SDRAM_CKE (io), D1 GPIO08/RX_IRDA/RXIR_IRDA (io), D2 GPIO07/TX_IRDA/TXIR_IRDA (io), D3 GPIO04 (io), E1 GPIO11/CTS_MODEM (io), E2 GPIO10/RX_MODEM (io), F1 GPIO18/AUDIO_CLK (io), F2 GPIO13/DCD_MODEM (io), F3 GPIO12/RTS_MODEM (io), F5 GPIO09/TX_MODEM (io), G1 GPIO16/SDA (io), G2 GPIO14/MCUEN2 (io), G3 GPIO00 (io), H1 KBGPIO14/DSP_CLKOUT (io), H3 GPIO17/SCL (io), H6 GPIO19/TIMER_OUT (io), J1 KBGPIO02/~{ARM_OPC} (io), J2 KBGPIO03/~{ARM_MREQ} (io), J3 KBGPIO04/~{ARM_EXEC} (io), J5 KBGPIO06/~{ARM_FIQ} (io), J6 KBGPIO07/~{ARM_IRQ} (io), K1 KBGPIO13/DSP_TOUT (io), K2 KBGPIO11/~{DSP_IAQ} (io), K5 KBGPIO05/ARM_TBIT (io), K6 KBGPIO01/DSP_XF (io), L1 KBGPIO15/ARM_MCLK (io), L2 KBGPIO00 (io), L5 KBGPIO10/~{DSP_IACK} (io), L6 KBGPIO12/~{DSP_MSC} (io), M1 KBGPIO08 (io), M2 KBGPIO09 (io), M3 GPIO01 (io), M6 GPIO15/MCUEN1 (io)
part B pins: E18 DATA31 (io), E19 DATA29 (io), F14 DATA30 (io), F17 DATA28 (io), F18 DATA27 (io), F19 DATA26 (io), G14 DATA25 (io), G18 DATA24 (io), L14 DATA23 (io), L15 DATA22 (io), L18 DATA21 (io), L19 DATA20 (io), M15 DATA16 (io), M17 DATA17 (io), M18 DATA18 (io), M19 DATA19 (io), N17 DATA13 (io), N18 DATA14 (io), N19 DATA15 (io), P11 ADD14 (out), P12 ADD10/SDRAM_A10 (out), P13 ADD07/SDRAM_A07 (out), P15 DATA07 (io), P17 DATA10 (io), P18 DATA11 (io), P19 DATA12 (io), R11 ADD13 (out), R17 DATA06 (io), R18 DATA08 (io), R19 DATA09 (io), T19 DATA05 (io), U11 ADD15 (out), U13 ADD08/SDRAM_A08 (out), U14 ADD04/SDRAM_A04 (out), U15 ADD00/SDRAM_A00 (out), U16 ADD21/~{SDRAM_CAS} (out), U17 DATA00 (io), U18 DATA03 (io), U19 DATA04 (io), V11 ADD16 (out), V12 ADD11/SDRAM_A11 (out), V13 ADD09/SDRAM_A09 (out), V14 ADD05/SDRAM_A05 (out), V15 ADD02/SDRAM_A02 (out), V16 ADD19SDRAM_BA1 (out), V17 ADD22/~{SDRAM_RAS} (out), V18 DATA01 (io), V19 DATA02 (io), W11 ADD17 (out), W12 ADD12/SDRAM_A12 (out), W13 ADD01/SDRAM_A01 (out), W14 ADD06/SDRAM_A06 (out), W15 ADD03/SDRAM_A03 (out), W16 ADD18/SDRAM_BA0 (out), W17 ADD20/~{SDRAM_WE} (out)
part C pins: A2 DSP_R/~{W} (out), A3 ~{DSP_PS} (out), A4 ~{DSP_IOSTRB} (out), A6 DSP_D13 (out), A7 DSP_D10 (out), A8 DSP_D06 (out), A9 DSP_D02 (out), A10 DSP_A19 (out), A11 DSP_A15 (out), A12 DSP_A14 (out), A13 DSP_A11 (out), A14 DSP_A08 (out), A15 DSP_A04 (out), A16 DSP_A01 (out), B3 DSP_READY (in), B4 ~{DSP_IS} (out), B5 ~{DSP_DS} (out), B6 DSP_D14 (out), B7 DSP_D11 (out), B8 DSP_D07 (out), B9 DSP_D03 (out), B11 DSP_A16 (out), B12 DSP_A13 (out), B13 DSP_A10 (out), B14 DSP_A06 (out), B15 DSP_A03 (out), B16 DSP_A00 (out), C5 ~{DSP_INT}0 (in), C6 DSP_D15 (out), C10 DSP_D00 (out), C12 DSP_A12 (out), C13 DSP_A09 (out), C14 DSP_A05 (out), C15 DSP_A02 (out), E8 DSP_D09 (out), E9 DSP_D05 (out), E11 DSP_A17 (out), E13 DSP_A07 (out), F6 ~{DSP_MSTRB} (out), F7 DSP_D12 (out), F8 DSP_D08 (out), F9 DSP_D04 (out), F10 DSP_D01 (out), F11 DSP_A18 (out)
part D pins: A17 BDX1 (out), A18 BCLKR1 (io), B17 BCLKX1 (io), B18 BFSR1 (io), B19 BFSR0 (io), C16 BFSX1 (io), C17 BDR1 (in), C18 BCLKR0 (io), C19 BDR0 (in), D18 BCLKX0 (io), D19 BFSX0 (io), E17 BDX0 (out), G19 ~{SDRAM_CS} (out), H14 R/~{W} (out), H15 SDRAM_CLK (out), H18 ~{WAIT} (in), H19 ~{OE} (out), J14 ~{CS}3/ROMSIZE16 (io), J17 ~{CS}2 (out), J18 ~{CS}1 (out), J19 ~{CS}0 (out), K14 ~{BE}3/SDRAM_DQM3 (out), K15 ~{BE}2/SDRAM_DQM2 (out), K17 ~{BE}1/SDRAM_DQM1 (out), K19 ~{BE}0/SDRAM_DQM0 (out), M5 CLKX_SPI (out), N1 MCUDI/EXTERN0 (in), N2 MCUDO/EXTERN1 (io), N6 MCUEN0 (out), P10 ~{RESET_OUT} (out), R10 ~{RESET} (in), U10 REFCLK (in), W18 CS4/BIGEND (io)
part E pins: R9 TDO (out), V8 ~{EMU}1 (io), V9 TDI (in), V10 ~{EMU}0 (io), W8 ~{TRST} (in), W9 TCK (in), W10 TMS (in)
part F pins: A5 CVDD (power), B10 CVDD (power), C3 VSS (power), C4 DVDD (power), C7 VSS (power), C8 DVDD (power), C9 VSS (power), C11 VSS (power), D17 VSS (power), E3 DVDD (power), E6 VSS (power), E7 DVDD (power), E10 DVDD (power), E12 DVDD (power), E14 DVDD (power), F12 VSS (power), F13 VSS (power), F15 DVDD (power), G5 CVDD (power), G6 VSS (power), G15 VSS (power), G17 CVDD (power), H2 VSS (power), H5 DVDD (power), H17 DVDD (power), J15 VSS (power), K3 CVDD (power), K18 DVDD (power), L3 VSS (power), L17 VSS (power), M14 DVDD (power), N3 DVDD (power), N5 VSS (power), N14 CVDD (power), N15 VSS (power), P5 CVDD (power), P9 DVDD (power), P14 VSS (power), R6 VSS (power), R8 CVDD (power), R12 DVDD (power), R13 CVDD (power), R14 DVDD (power), T3 DVDD (power), T17 VSS (power), T18 DVDD (power), U6 DVDD (power), U9 VSS (power), U12 VSS (power)
part G pins: E5 NC, P1 NC, P2 NC, P3 NC, P6 NC, P7 NC, P8 NC, R1 NC, R2 NC, R3 NC, R7 NC, T1 NC, T2 NC, U1 NC, U2 NC, U3 NC, U4 NC, U5 NC, U7 NC, U8 NC, V1 NC, V2 NC, V3 NC, V4 NC, V5 NC, V6 NC, V7 NC, W2 NC, W3 NC, W4 NC, W5 NC, W6 NC, W7 NC

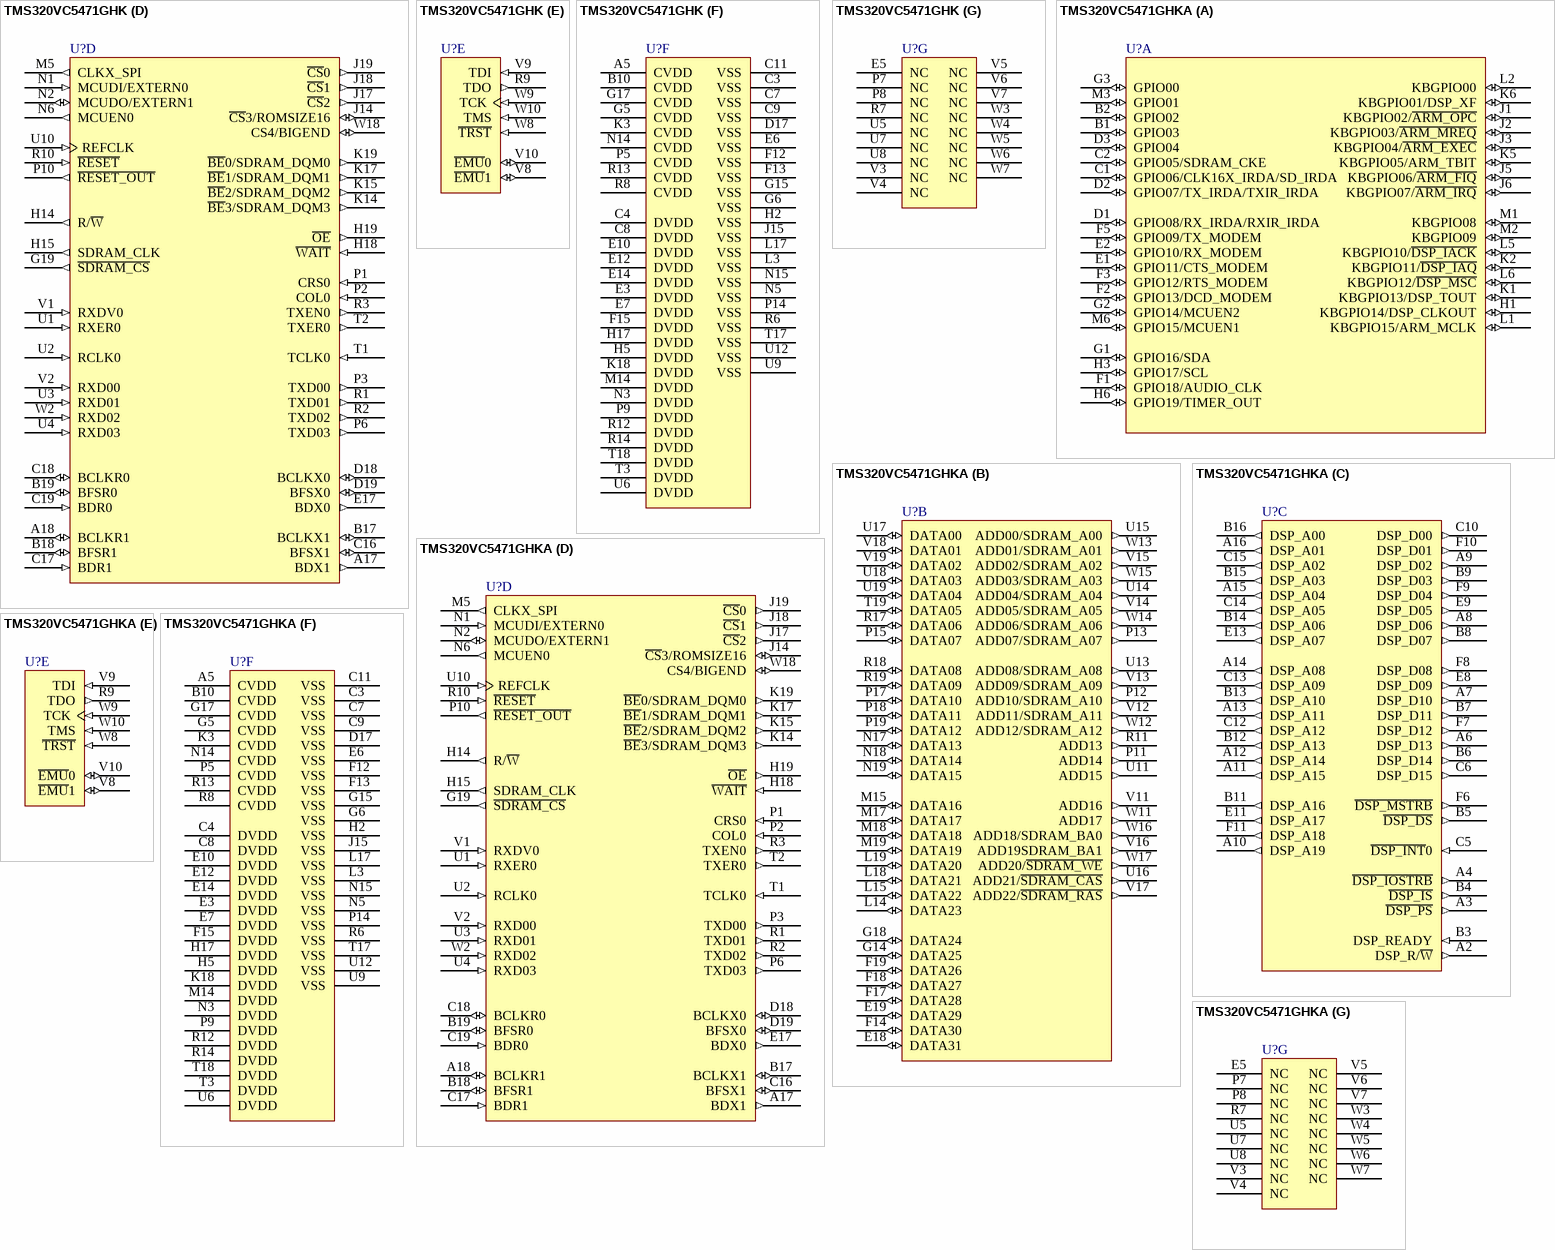
[diagram p3: symbols TMS320VC5471GHK to TMS320VC5471GHKA]

## TMS320VC5471GHK
designator U?
TMS320C54x DSP and ARM7TDMI 16/32-Bit RISC MCU, 72K x 16-bit SRAM, 257-ball BGA; Published: 30-Mar-2007; DatasheetVersion: revC, Dec-2002; PackageVersion: May-2005; PackageReference: GHK257; Publisher: Altium Limited; PackageDescription: 257-Ball Plastic Ball Grid Array 0.8 mm Pitch; ComponentLink1Description: Manufacturer Link; ComponentLink1URL: http://www.ti.com/; ComponentLink2Description: Datasheet; ComponentLink2URL: http://focus.ti.com/lit/ds/symlink/tms320vc5471.pdf
footprint GHK257 (BGA, 257-Leads, Body 16x16mm, Pitch 0.8mm)
part A pins: B1 GPIO03 (io), B2 GPIO02 (io), C1 GPIO06/CLK16X_IRDA/SD_IRDA (io), C2 GPIO05/SDRAM_CKE (io), D1 GPIO08/RX_IRDA/RXIR_IRDA (io), D2 GPIO07/TX_IRDA/TXIR_IRDA (io), D3 GPIO04 (io), E1 GPIO11/CTS_MODEM (io), E2 GPIO10/RX_MODEM (io), F1 GPIO18/AUDIO_CLK (io), F2 GPIO13/DCD_MODEM (io), F3 GPIO12/RTS_MODEM (io), F5 GPIO09/TX_MODEM (io), G1 GPIO16/SDA (io), G2 GPIO14/MCUEN2 (io), G3 GPIO00 (io), H1 KBGPIO14/DSP_CLKOUT (io), H3 GPIO17/SCL (io), H6 GPIO19/TIMER_OUT (io), J1 KBGPIO02/~{ARM_OPC} (io), J2 KBGPIO03/~{ARM_MREQ} (io), J3 KBGPIO04/~{ARM_EXEC} (io), J5 KBGPIO06/~{ARM_FIQ} (io), J6 KBGPIO07/~{ARM_IRQ} (io), K1 KBGPIO13/DSP_TOUT (io), K2 KBGPIO11/~{DSP_IAQ} (io), K5 KBGPIO05/ARM_TBIT (io), K6 KBGPIO01/DSP_XF (io), L1 KBGPIO15/ARM_MCLK (io), L2 KBGPIO00 (io), L5 KBGPIO10/~{DSP_IACK} (io), L6 KBGPIO12/~{DSP_MSC} (io), M1 KBGPIO08 (io), M2 KBGPIO09 (io), M3 GPIO01 (io), M6 GPIO15/MCUEN1 (io)
part B pins: E18 DATA31 (io), E19 DATA29 (io), F14 DATA30 (io), F17 DATA28 (io), F18 DATA27 (io), F19 DATA26 (io), G14 DATA25 (io), G18 DATA24 (io), L14 DATA23 (io), L15 DATA22 (io), L18 DATA21 (io), L19 DATA20 (io), M15 DATA16 (io), M17 DATA17 (io), M18 DATA18 (io), M19 DATA19 (io), N17 DATA13 (io), N18 DATA14 (io), N19 DATA15 (io), P11 ADD14 (out), P12 ADD10/SDRAM_A10 (out), P13 ADD07/SDRAM_A07 (out), P15 DATA07 (io), P17 DATA10 (io), P18 DATA11 (io), P19 DATA12 (io), R11 ADD13 (out), R17 DATA06 (io), R18 DATA08 (io), R19 DATA09 (io), T19 DATA05 (io), U11 ADD15 (out), U13 ADD08/SDRAM_A08 (out), U14 ADD04/SDRAM_A04 (out), U15 ADD00/SDRAM_A00 (out), U16 ADD21/~{SDRAM_CAS} (out), U17 DATA00 (io), U18 DATA03 (io), U19 DATA04 (io), V11 ADD16 (out), V12 ADD11/SDRAM_A11 (out), V13 ADD09/SDRAM_A09 (out), V14 ADD05/SDRAM_A05 (out), V15 ADD02/SDRAM_A02 (out), V16 ADD19SDRAM_BA1 (out), V17 ADD22/~{SDRAM_RAS} (out), V18 DATA01 (io), V19 DATA02 (io), W11 ADD17 (out), W12 ADD12/SDRAM_A12 (out), W13 ADD01/SDRAM_A01 (out), W14 ADD06/SDRAM_A06 (out), W15 ADD03/SDRAM_A03 (out), W16 ADD18/SDRAM_BA0 (out), W17 ADD20/~{SDRAM_WE} (out)
part C pins: A2 DSP_R/~{W} (out), A3 ~{DSP_PS} (out), A4 ~{DSP_IOSTRB} (out), A6 DSP_D13 (out), A7 DSP_D10 (out), A8 DSP_D06 (out), A9 DSP_D02 (out), A10 DSP_A19 (out), A11 DSP_A15 (out), A12 DSP_A14 (out), A13 DSP_A11 (out), A14 DSP_A08 (out), A15 DSP_A04 (out), A16 DSP_A01 (out), B3 DSP_READY (in), B4 ~{DSP_IS} (out), B5 ~{DSP_DS} (out), B6 DSP_D14 (out), B7 DSP_D11 (out), B8 DSP_D07 (out), B9 DSP_D03 (out), B11 DSP_A16 (out), B12 DSP_A13 (out), B13 DSP_A10 (out), B14 DSP_A06 (out), B15 DSP_A03 (out), B16 DSP_A00 (out), C5 ~{DSP_INT}0 (in), C6 DSP_D15 (out), C10 DSP_D00 (out), C12 DSP_A12 (out), C13 DSP_A09 (out), C14 DSP_A05 (out), C15 DSP_A02 (out), E8 DSP_D09 (out), E9 DSP_D05 (out), E11 DSP_A17 (out), E13 DSP_A07 (out), F6 ~{DSP_MSTRB} (out), F7 DSP_D12 (out), F8 DSP_D08 (out), F9 DSP_D04 (out), F10 DSP_D01 (out), F11 DSP_A18 (out)
part D pins: A17 BDX1 (out), A18 BCLKR1 (io), B17 BCLKX1 (io), B18 BFSR1 (io), B19 BFSR0 (io), C16 BFSX1 (io), C17 BDR1 (in), C18 BCLKR0 (io), C19 BDR0 (in), D18 BCLKX0 (io), D19 BFSX0 (io), E17 BDX0 (out), G19 ~{SDRAM_CS} (out), H14 R/~{W} (out), H15 SDRAM_CLK (out), H18 ~{WAIT} (in), H19 ~{OE} (out), J14 ~{CS}3/ROMSIZE16 (io), J17 ~{CS}2 (out), J18 ~{CS}1 (out), J19 ~{CS}0 (out), K14 ~{BE}3/SDRAM_DQM3 (out), K15 ~{BE}2/SDRAM_DQM2 (out), K17 ~{BE}1/SDRAM_DQM1 (out), K19 ~{BE}0/SDRAM_DQM0 (out), M5 CLKX_SPI (out), N1 MCUDI/EXTERN0 (in), N2 MCUDO/EXTERN1 (io), N6 MCUEN0 (out), P1 CRS0 (in), P2 COL0 (in), P3 TXD00 (out), P6 TXD03 (out), P10 ~{RESET_OUT} (out), R1 TXD01 (out), R2 TXD02 (out), R3 TXEN0 (out), R10 ~{RESET} (in), T1 TCLK0 (in), T2 TXER0 (out), U1 RXER0 (in), U2 RCLK0 (in), U3 RXD01 (in), U4 RXD03 (in), U10 REFCLK (in), V1 RXDV0 (in), V2 RXD00 (in), W2 RXD02 (in), W18 CS4/BIGEND (io)
part E pins: R9 TDO (out), V8 ~{EMU}1 (io), V9 TDI (in), V10 ~{EMU}0 (io), W8 ~{TRST} (in), W9 TCK (in), W10 TMS (in)
part F pins: A5 CVDD (power), B10 CVDD (power), C3 VSS (power), C4 DVDD (power), C7 VSS (power), C8 DVDD (power), C9 VSS (power), C11 VSS (power), D17 VSS (power), E3 DVDD (power), E6 VSS (power), E7 DVDD (power), E10 DVDD (power), E12 DVDD (power), E14 DVDD (power), F12 VSS (power), F13 VSS (power), F15 DVDD (power), G5 CVDD (power), G6 VSS (power), G15 VSS (power), G17 CVDD (power), H2 VSS (power), H5 DVDD (power), H17 DVDD (power), J15 VSS (power), K3 CVDD (power), K18 DVDD (power), L3 VSS (power), L17 VSS (power), M14 DVDD (power), N3 DVDD (power), N5 VSS (power), N14 CVDD (power), N15 VSS (power), P5 CVDD (power), P9 DVDD (power), P14 VSS (power), R6 VSS (power), R8 CVDD (power), R12 DVDD (power), R13 CVDD (power), R14 DVDD (power), T3 DVDD (power), T17 VSS (power), T18 DVDD (power), U6 DVDD (power), U9 VSS (power), U12 VSS (power)
part G pins: E5 NC, P7 NC, P8 NC, R7 NC, U5 NC, U7 NC, U8 NC, V3 NC, V4 NC, V5 NC, V6 NC, V7 NC, W3 NC, W4 NC, W5 NC, W6 NC, W7 NC

## TMS320VC5471GHKA
designator U?
TMS320C54x DSP and ARM7TDMI 16/32-Bit RISC MCU, 72K x 16-bit SRAM, 257-ball BGA; Published: 30-Mar-2007; DatasheetVersion: revC, Dec-2002; PackageVersion: May-2005; PackageReference: GHK257; Publisher: Altium Limited; PackageDescription: 257-Ball Plastic Ball Grid Array 0.8 mm Pitch; ComponentLink1Description: Manufacturer Link; ComponentLink1URL: http://www.ti.com/; ComponentLink2Description: Datasheet; ComponentLink2URL: http://focus.ti.com/lit/ds/symlink/tms320vc5471.pdf
footprint GHK257 (BGA, 257-Leads, Body 16x16mm, Pitch 0.8mm)
part A pins: B1 GPIO03 (io), B2 GPIO02 (io), C1 GPIO06/CLK16X_IRDA/SD_IRDA (io), C2 GPIO05/SDRAM_CKE (io), D1 GPIO08/RX_IRDA/RXIR_IRDA (io), D2 GPIO07/TX_IRDA/TXIR_IRDA (io), D3 GPIO04 (io), E1 GPIO11/CTS_MODEM (io), E2 GPIO10/RX_MODEM (io), F1 GPIO18/AUDIO_CLK (io), F2 GPIO13/DCD_MODEM (io), F3 GPIO12/RTS_MODEM (io), F5 GPIO09/TX_MODEM (io), G1 GPIO16/SDA (io), G2 GPIO14/MCUEN2 (io), G3 GPIO00 (io), H1 KBGPIO14/DSP_CLKOUT (io), H3 GPIO17/SCL (io), H6 GPIO19/TIMER_OUT (io), J1 KBGPIO02/~{ARM_OPC} (io), J2 KBGPIO03/~{ARM_MREQ} (io), J3 KBGPIO04/~{ARM_EXEC} (io), J5 KBGPIO06/~{ARM_FIQ} (io), J6 KBGPIO07/~{ARM_IRQ} (io), K1 KBGPIO13/DSP_TOUT (io), K2 KBGPIO11/~{DSP_IAQ} (io), K5 KBGPIO05/ARM_TBIT (io), K6 KBGPIO01/DSP_XF (io), L1 KBGPIO15/ARM_MCLK (io), L2 KBGPIO00 (io), L5 KBGPIO10/~{DSP_IACK} (io), L6 KBGPIO12/~{DSP_MSC} (io), M1 KBGPIO08 (io), M2 KBGPIO09 (io), M3 GPIO01 (io), M6 GPIO15/MCUEN1 (io)
part B pins: E18 DATA31 (io), E19 DATA29 (io), F14 DATA30 (io), F17 DATA28 (io), F18 DATA27 (io), F19 DATA26 (io), G14 DATA25 (io), G18 DATA24 (io), L14 DATA23 (io), L15 DATA22 (io), L18 DATA21 (io), L19 DATA20 (io), M15 DATA16 (io), M17 DATA17 (io), M18 DATA18 (io), M19 DATA19 (io), N17 DATA13 (io), N18 DATA14 (io), N19 DATA15 (io), P11 ADD14 (out), P12 ADD10/SDRAM_A10 (out), P13 ADD07/SDRAM_A07 (out), P15 DATA07 (io), P17 DATA10 (io), P18 DATA11 (io), P19 DATA12 (io), R11 ADD13 (out), R17 DATA06 (io), R18 DATA08 (io), R19 DATA09 (io), T19 DATA05 (io), U11 ADD15 (out), U13 ADD08/SDRAM_A08 (out), U14 ADD04/SDRAM_A04 (out), U15 ADD00/SDRAM_A00 (out), U16 ADD21/~{SDRAM_CAS} (out), U17 DATA00 (io), U18 DATA03 (io), U19 DATA04 (io), V11 ADD16 (out), V12 ADD11/SDRAM_A11 (out), V13 ADD09/SDRAM_A09 (out), V14 ADD05/SDRAM_A05 (out), V15 ADD02/SDRAM_A02 (out), V16 ADD19SDRAM_BA1 (out), V17 ADD22/~{SDRAM_RAS} (out), V18 DATA01 (io), V19 DATA02 (io), W11 ADD17 (out), W12 ADD12/SDRAM_A12 (out), W13 ADD01/SDRAM_A01 (out), W14 ADD06/SDRAM_A06 (out), W15 ADD03/SDRAM_A03 (out), W16 ADD18/SDRAM_BA0 (out), W17 ADD20/~{SDRAM_WE} (out)
part C pins: A2 DSP_R/~{W} (out), A3 ~{DSP_PS} (out), A4 ~{DSP_IOSTRB} (out), A6 DSP_D13 (out), A7 DSP_D10 (out), A8 DSP_D06 (out), A9 DSP_D02 (out), A10 DSP_A19 (out), A11 DSP_A15 (out), A12 DSP_A14 (out), A13 DSP_A11 (out), A14 DSP_A08 (out), A15 DSP_A04 (out), A16 DSP_A01 (out), B3 DSP_READY (in), B4 ~{DSP_IS} (out), B5 ~{DSP_DS} (out), B6 DSP_D14 (out), B7 DSP_D11 (out), B8 DSP_D07 (out), B9 DSP_D03 (out), B11 DSP_A16 (out), B12 DSP_A13 (out), B13 DSP_A10 (out), B14 DSP_A06 (out), B15 DSP_A03 (out), B16 DSP_A00 (out), C5 ~{DSP_INT}0 (in), C6 DSP_D15 (out), C10 DSP_D00 (out), C12 DSP_A12 (out), C13 DSP_A09 (out), C14 DSP_A05 (out), C15 DSP_A02 (out), E8 DSP_D09 (out), E9 DSP_D05 (out), E11 DSP_A17 (out), E13 DSP_A07 (out), F6 ~{DSP_MSTRB} (out), F7 DSP_D12 (out), F8 DSP_D08 (out), F9 DSP_D04 (out), F10 DSP_D01 (out), F11 DSP_A18 (out)
part D pins: A17 BDX1 (out), A18 BCLKR1 (io), B17 BCLKX1 (io), B18 BFSR1 (io), B19 BFSR0 (io), C16 BFSX1 (io), C17 BDR1 (in), C18 BCLKR0 (io), C19 BDR0 (in), D18 BCLKX0 (io), D19 BFSX0 (io), E17 BDX0 (out), G19 ~{SDRAM_CS} (out), H14 R/~{W} (out), H15 SDRAM_CLK (out), H18 ~{WAIT} (in), H19 ~{OE} (out), J14 ~{CS}3/ROMSIZE16 (io), J17 ~{CS}2 (out), J18 ~{CS}1 (out), J19 ~{CS}0 (out), K14 ~{BE}3/SDRAM_DQM3 (out), K15 ~{BE}2/SDRAM_DQM2 (out), K17 ~{BE}1/SDRAM_DQM1 (out), K19 ~{BE}0/SDRAM_DQM0 (out), M5 CLKX_SPI (out), N1 MCUDI/EXTERN0 (in), N2 MCUDO/EXTERN1 (io), N6 MCUEN0 (out), P1 CRS0 (in), P2 COL0 (in), P3 TXD00 (out), P6 TXD03 (out), P10 ~{RESET_OUT} (out), R1 TXD01 (out), R2 TXD02 (out), R3 TXEN0 (out), R10 ~{RESET} (in), T1 TCLK0 (in), T2 TXER0 (out), U1 RXER0 (in), U2 RCLK0 (in), U3 RXD01 (in), U4 RXD03 (in), U10 REFCLK (in), V1 RXDV0 (in), V2 RXD00 (in), W2 RXD02 (in), W18 CS4/BIGEND (io)
part E pins: R9 TDO (out), V8 ~{EMU}1 (io), V9 TDI (in), V10 ~{EMU}0 (io), W8 ~{TRST} (in), W9 TCK (in), W10 TMS (in)
part F pins: A5 CVDD (power), B10 CVDD (power), C3 VSS (power), C4 DVDD (power), C7 VSS (power), C8 DVDD (power), C9 VSS (power), C11 VSS (power), D17 VSS (power), E3 DVDD (power), E6 VSS (power), E7 DVDD (power), E10 DVDD (power), E12 DVDD (power), E14 DVDD (power), F12 VSS (power), F13 VSS (power), F15 DVDD (power), G5 CVDD (power), G6 VSS (power), G15 VSS (power), G17 CVDD (power), H2 VSS (power), H5 DVDD (power), H17 DVDD (power), J15 VSS (power), K3 CVDD (power), K18 DVDD (power), L3 VSS (power), L17 VSS (power), M14 DVDD (power), N3 DVDD (power), N5 VSS (power), N14 CVDD (power), N15 VSS (power), P5 CVDD (power), P9 DVDD (power), P14 VSS (power), R6 VSS (power), R8 CVDD (power), R12 DVDD (power), R13 CVDD (power), R14 DVDD (power), T3 DVDD (power), T17 VSS (power), T18 DVDD (power), U6 DVDD (power), U9 VSS (power), U12 VSS (power)
part G pins: E5 NC, P7 NC, P8 NC, R7 NC, U5 NC, U7 NC, U8 NC, V3 NC, V4 NC, V5 NC, V6 NC, V7 NC, W3 NC, W4 NC, W5 NC, W6 NC, W7 NC

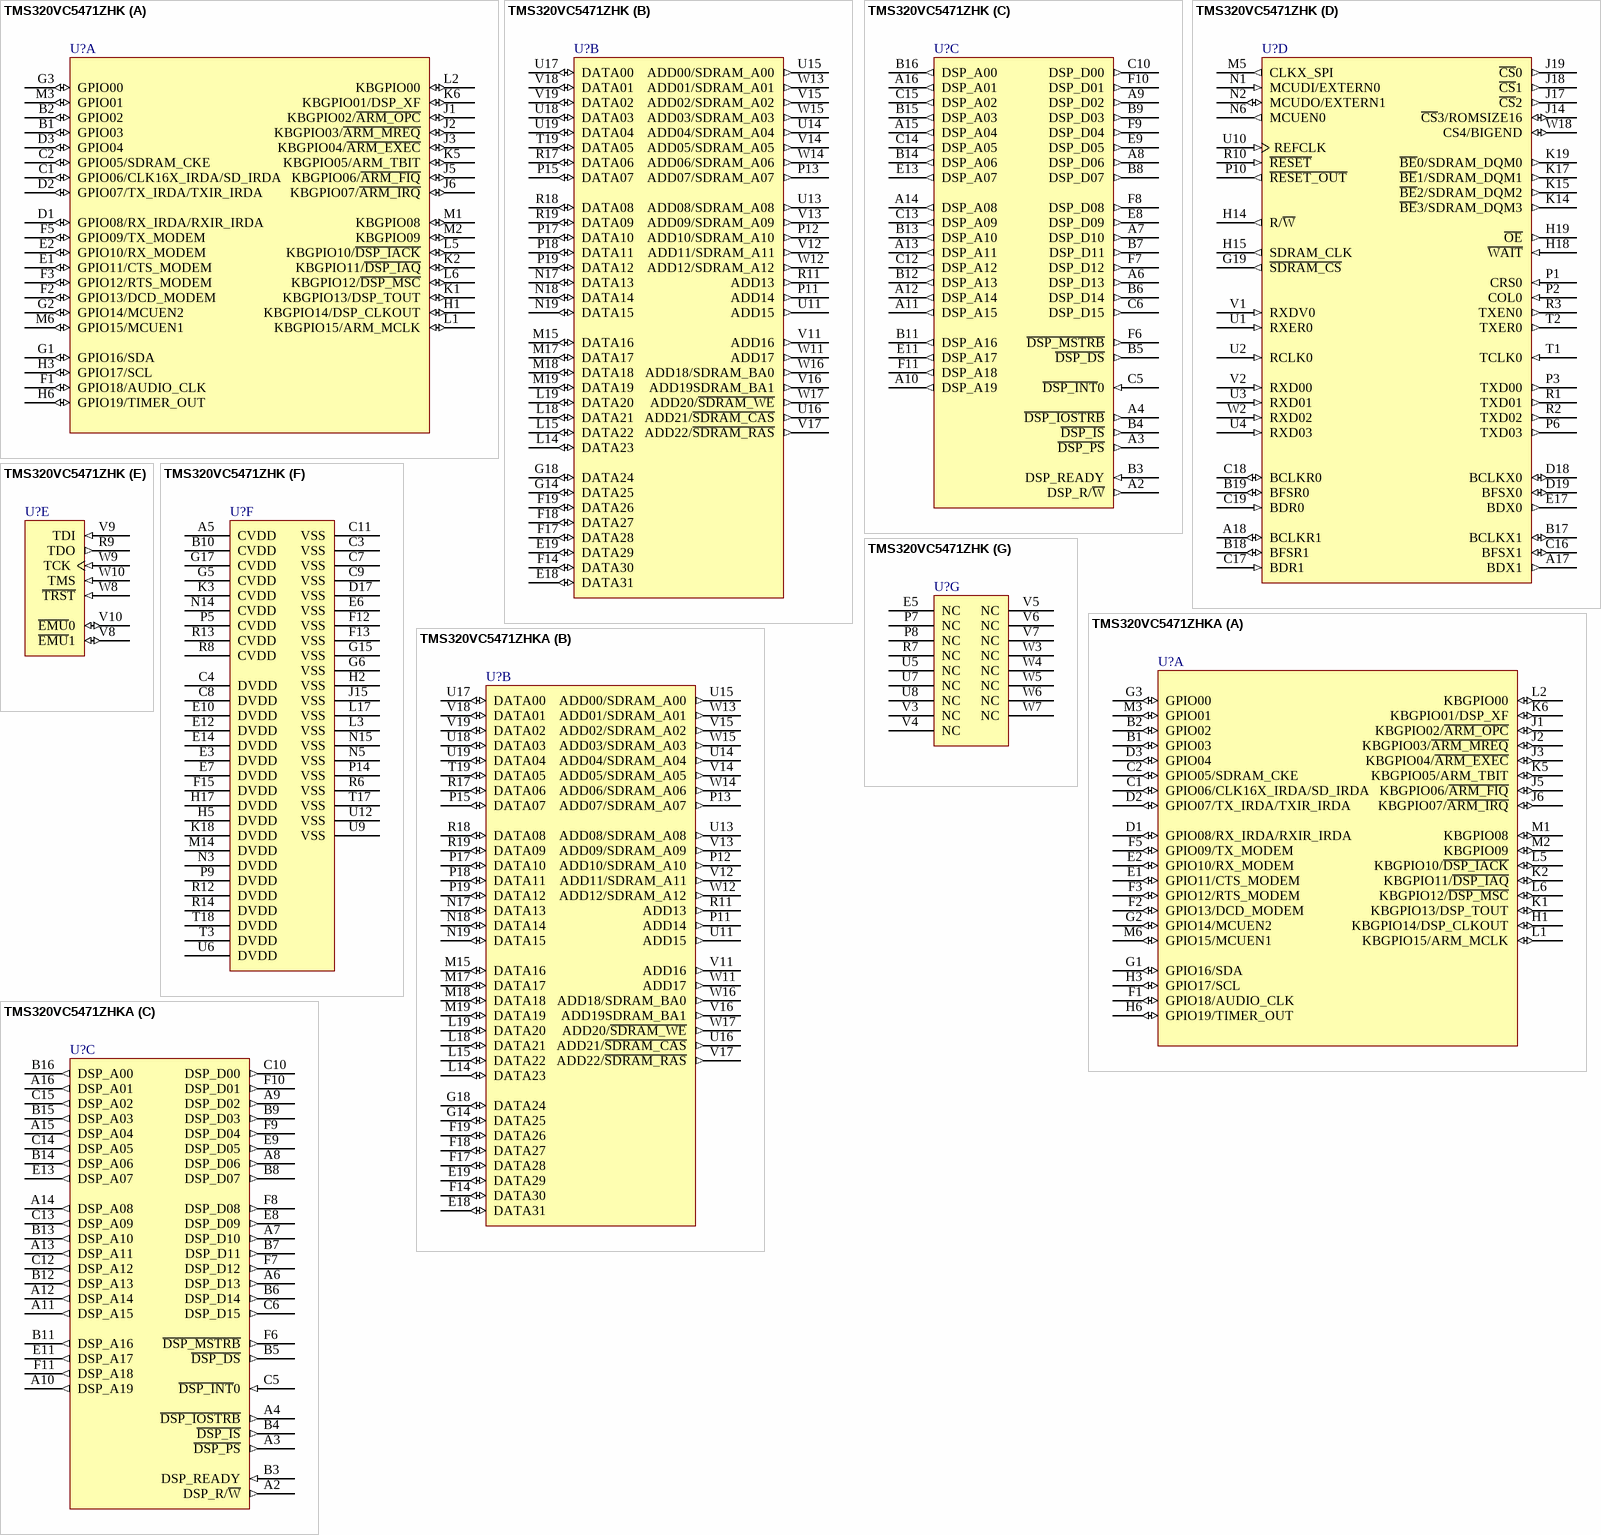
[diagram p4: symbols TMS320VC5471ZHK to TMS320VC5471ZHKA]

## TMS320VC5471ZHK
designator U?
TMS320C54x DSP and ARM7TDMI 16/32-Bit RISC MCU, 72K x 16-bit SRAM, 257-ball BGA, Pb-Free; Published: 30-Mar-2007; DatasheetVersion: revC, Dec-2002; PackageVersion: Feb-2006; PackageReference: ZHK257; Publisher: Altium Limited; PackageDescription: 257-Ball Plastic Ball Grid Array 0.8 mm Pitch - Pb-Free; ComponentLink1Description: Manufacturer Link; ComponentLink1URL: http://www.ti.com/; ComponentLink2Description: Datasheet; ComponentLink2URL: http://focus.ti.com/lit/ds/symlink/tms320vc5471.pdf
footprint ZHK257 (BGA, 257-Leads, Body 16x16mm, Pitch 0.8mm)
part A pins: B1 GPIO03 (io), B2 GPIO02 (io), C1 GPIO06/CLK16X_IRDA/SD_IRDA (io), C2 GPIO05/SDRAM_CKE (io), D1 GPIO08/RX_IRDA/RXIR_IRDA (io), D2 GPIO07/TX_IRDA/TXIR_IRDA (io), D3 GPIO04 (io), E1 GPIO11/CTS_MODEM (io), E2 GPIO10/RX_MODEM (io), F1 GPIO18/AUDIO_CLK (io), F2 GPIO13/DCD_MODEM (io), F3 GPIO12/RTS_MODEM (io), F5 GPIO09/TX_MODEM (io), G1 GPIO16/SDA (io), G2 GPIO14/MCUEN2 (io), G3 GPIO00 (io), H1 KBGPIO14/DSP_CLKOUT (io), H3 GPIO17/SCL (io), H6 GPIO19/TIMER_OUT (io), J1 KBGPIO02/~{ARM_OPC} (io), J2 KBGPIO03/~{ARM_MREQ} (io), J3 KBGPIO04/~{ARM_EXEC} (io), J5 KBGPIO06/~{ARM_FIQ} (io), J6 KBGPIO07/~{ARM_IRQ} (io), K1 KBGPIO13/DSP_TOUT (io), K2 KBGPIO11/~{DSP_IAQ} (io), K5 KBGPIO05/ARM_TBIT (io), K6 KBGPIO01/DSP_XF (io), L1 KBGPIO15/ARM_MCLK (io), L2 KBGPIO00 (io), L5 KBGPIO10/~{DSP_IACK} (io), L6 KBGPIO12/~{DSP_MSC} (io), M1 KBGPIO08 (io), M2 KBGPIO09 (io), M3 GPIO01 (io), M6 GPIO15/MCUEN1 (io)
part B pins: E18 DATA31 (io), E19 DATA29 (io), F14 DATA30 (io), F17 DATA28 (io), F18 DATA27 (io), F19 DATA26 (io), G14 DATA25 (io), G18 DATA24 (io), L14 DATA23 (io), L15 DATA22 (io), L18 DATA21 (io), L19 DATA20 (io), M15 DATA16 (io), M17 DATA17 (io), M18 DATA18 (io), M19 DATA19 (io), N17 DATA13 (io), N18 DATA14 (io), N19 DATA15 (io), P11 ADD14 (out), P12 ADD10/SDRAM_A10 (out), P13 ADD07/SDRAM_A07 (out), P15 DATA07 (io), P17 DATA10 (io), P18 DATA11 (io), P19 DATA12 (io), R11 ADD13 (out), R17 DATA06 (io), R18 DATA08 (io), R19 DATA09 (io), T19 DATA05 (io), U11 ADD15 (out), U13 ADD08/SDRAM_A08 (out), U14 ADD04/SDRAM_A04 (out), U15 ADD00/SDRAM_A00 (out), U16 ADD21/~{SDRAM_CAS} (out), U17 DATA00 (io), U18 DATA03 (io), U19 DATA04 (io), V11 ADD16 (out), V12 ADD11/SDRAM_A11 (out), V13 ADD09/SDRAM_A09 (out), V14 ADD05/SDRAM_A05 (out), V15 ADD02/SDRAM_A02 (out), V16 ADD19SDRAM_BA1 (out), V17 ADD22/~{SDRAM_RAS} (out), V18 DATA01 (io), V19 DATA02 (io), W11 ADD17 (out), W12 ADD12/SDRAM_A12 (out), W13 ADD01/SDRAM_A01 (out), W14 ADD06/SDRAM_A06 (out), W15 ADD03/SDRAM_A03 (out), W16 ADD18/SDRAM_BA0 (out), W17 ADD20/~{SDRAM_WE} (out)
part C pins: A2 DSP_R/~{W} (out), A3 ~{DSP_PS} (out), A4 ~{DSP_IOSTRB} (out), A6 DSP_D13 (out), A7 DSP_D10 (out), A8 DSP_D06 (out), A9 DSP_D02 (out), A10 DSP_A19 (out), A11 DSP_A15 (out), A12 DSP_A14 (out), A13 DSP_A11 (out), A14 DSP_A08 (out), A15 DSP_A04 (out), A16 DSP_A01 (out), B3 DSP_READY (in), B4 ~{DSP_IS} (out), B5 ~{DSP_DS} (out), B6 DSP_D14 (out), B7 DSP_D11 (out), B8 DSP_D07 (out), B9 DSP_D03 (out), B11 DSP_A16 (out), B12 DSP_A13 (out), B13 DSP_A10 (out), B14 DSP_A06 (out), B15 DSP_A03 (out), B16 DSP_A00 (out), C5 ~{DSP_INT}0 (in), C6 DSP_D15 (out), C10 DSP_D00 (out), C12 DSP_A12 (out), C13 DSP_A09 (out), C14 DSP_A05 (out), C15 DSP_A02 (out), E8 DSP_D09 (out), E9 DSP_D05 (out), E11 DSP_A17 (out), E13 DSP_A07 (out), F6 ~{DSP_MSTRB} (out), F7 DSP_D12 (out), F8 DSP_D08 (out), F9 DSP_D04 (out), F10 DSP_D01 (out), F11 DSP_A18 (out)
part D pins: A17 BDX1 (out), A18 BCLKR1 (io), B17 BCLKX1 (io), B18 BFSR1 (io), B19 BFSR0 (io), C16 BFSX1 (io), C17 BDR1 (in), C18 BCLKR0 (io), C19 BDR0 (in), D18 BCLKX0 (io), D19 BFSX0 (io), E17 BDX0 (out), G19 ~{SDRAM_CS} (out), H14 R/~{W} (out), H15 SDRAM_CLK (out), H18 ~{WAIT} (in), H19 ~{OE} (out), J14 ~{CS}3/ROMSIZE16 (io), J17 ~{CS}2 (out), J18 ~{CS}1 (out), J19 ~{CS}0 (out), K14 ~{BE}3/SDRAM_DQM3 (out), K15 ~{BE}2/SDRAM_DQM2 (out), K17 ~{BE}1/SDRAM_DQM1 (out), K19 ~{BE}0/SDRAM_DQM0 (out), M5 CLKX_SPI (out), N1 MCUDI/EXTERN0 (in), N2 MCUDO/EXTERN1 (io), N6 MCUEN0 (out), P1 CRS0 (in), P2 COL0 (in), P3 TXD00 (out), P6 TXD03 (out), P10 ~{RESET_OUT} (out), R1 TXD01 (out), R2 TXD02 (out), R3 TXEN0 (out), R10 ~{RESET} (in), T1 TCLK0 (in), T2 TXER0 (out), U1 RXER0 (in), U2 RCLK0 (in), U3 RXD01 (in), U4 RXD03 (in), U10 REFCLK (in), V1 RXDV0 (in), V2 RXD00 (in), W2 RXD02 (in), W18 CS4/BIGEND (io)
part E pins: R9 TDO (out), V8 ~{EMU}1 (io), V9 TDI (in), V10 ~{EMU}0 (io), W8 ~{TRST} (in), W9 TCK (in), W10 TMS (in)
part F pins: A5 CVDD (power), B10 CVDD (power), C3 VSS (power), C4 DVDD (power), C7 VSS (power), C8 DVDD (power), C9 VSS (power), C11 VSS (power), D17 VSS (power), E3 DVDD (power), E6 VSS (power), E7 DVDD (power), E10 DVDD (power), E12 DVDD (power), E14 DVDD (power), F12 VSS (power), F13 VSS (power), F15 DVDD (power), G5 CVDD (power), G6 VSS (power), G15 VSS (power), G17 CVDD (power), H2 VSS (power), H5 DVDD (power), H17 DVDD (power), J15 VSS (power), K3 CVDD (power), K18 DVDD (power), L3 VSS (power), L17 VSS (power), M14 DVDD (power), N3 DVDD (power), N5 VSS (power), N14 CVDD (power), N15 VSS (power), P5 CVDD (power), P9 DVDD (power), P14 VSS (power), R6 VSS (power), R8 CVDD (power), R12 DVDD (power), R13 CVDD (power), R14 DVDD (power), T3 DVDD (power), T17 VSS (power), T18 DVDD (power), U6 DVDD (power), U9 VSS (power), U12 VSS (power)
part G pins: E5 NC, P7 NC, P8 NC, R7 NC, U5 NC, U7 NC, U8 NC, V3 NC, V4 NC, V5 NC, V6 NC, V7 NC, W3 NC, W4 NC, W5 NC, W6 NC, W7 NC

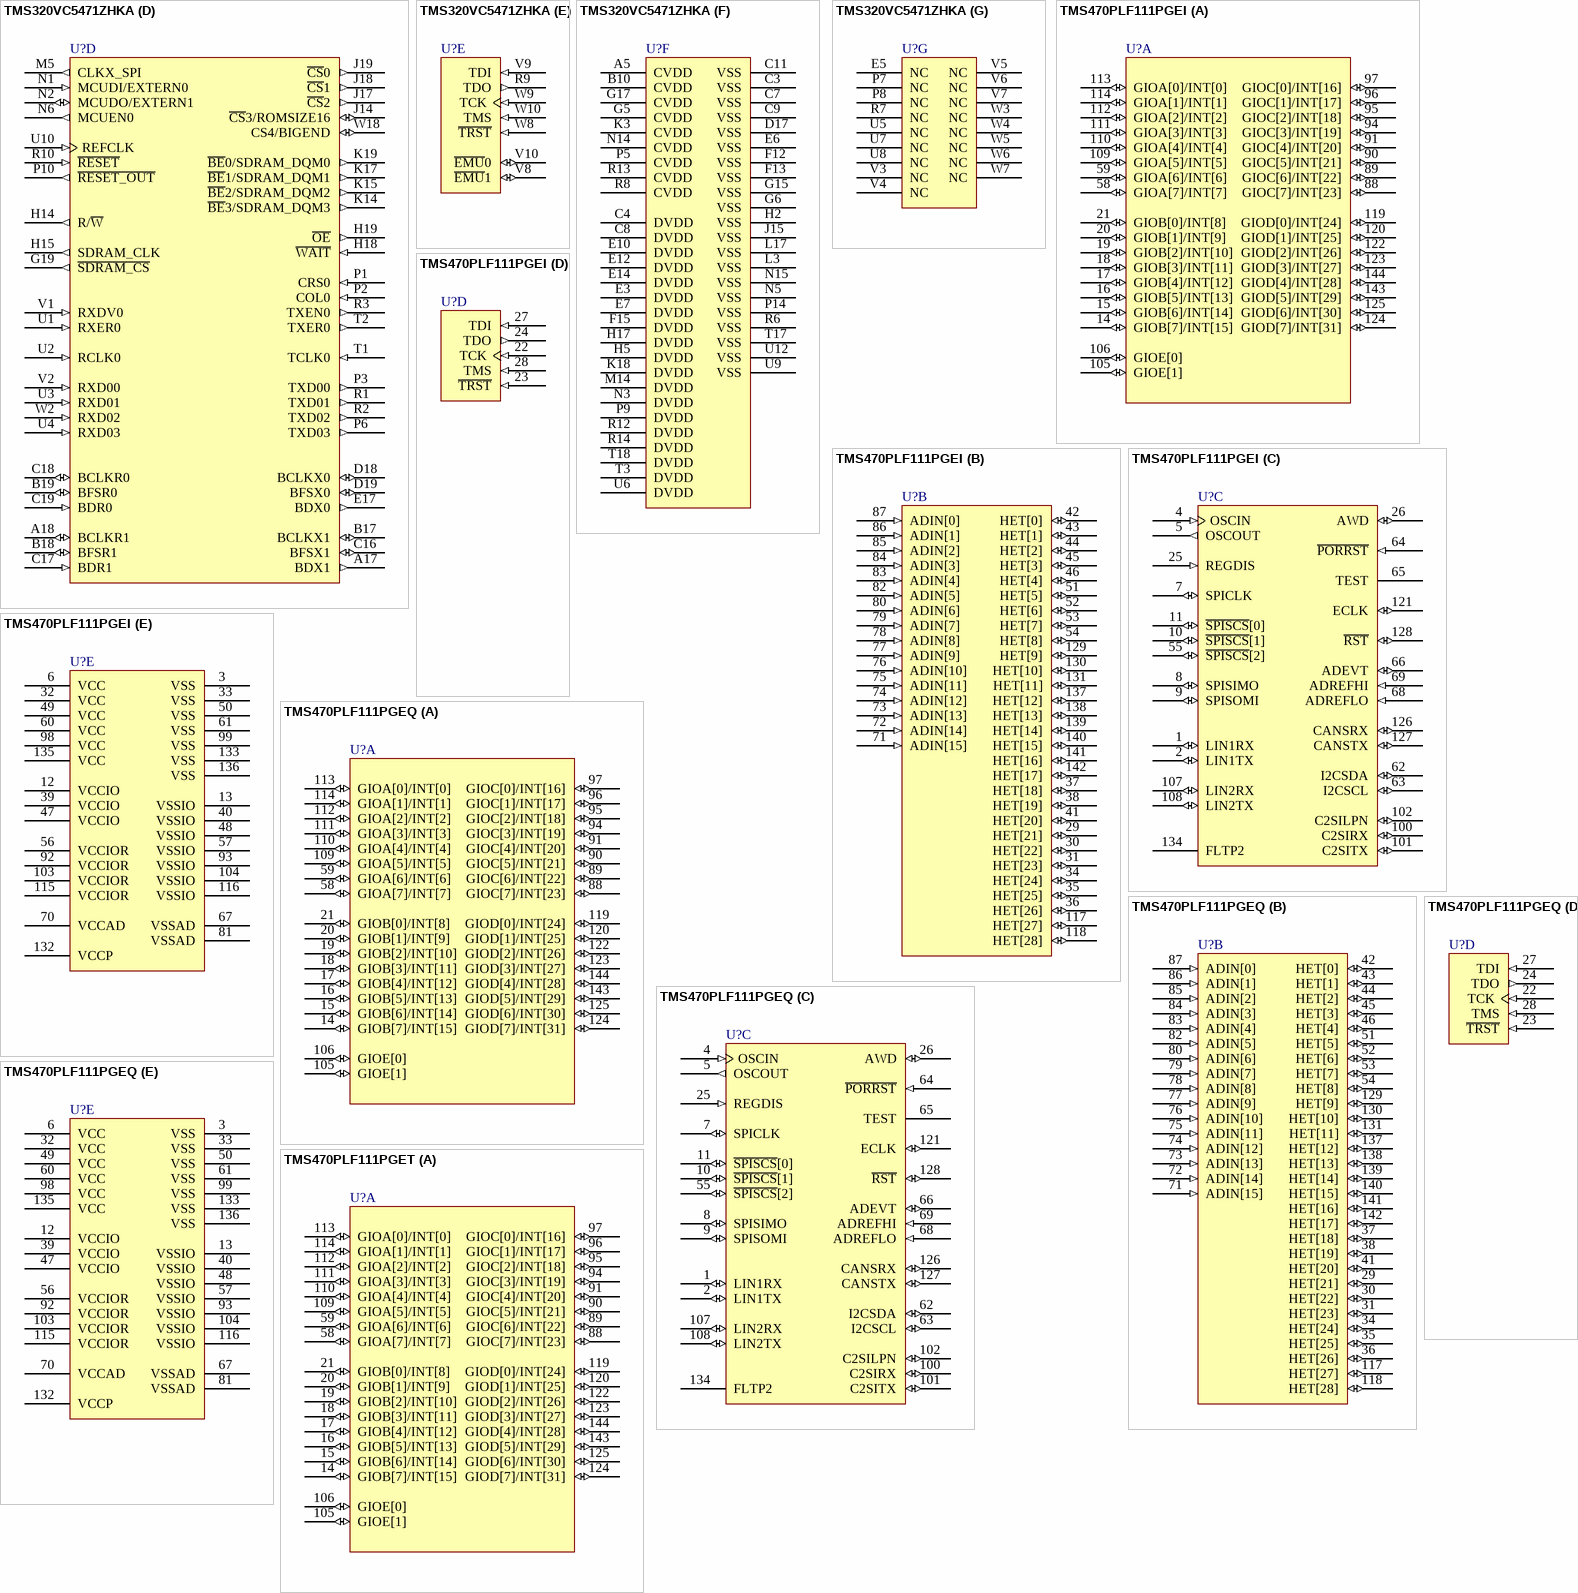
[diagram p5: symbols TMS320VC5471ZHKA to TMS470PLF111PGET]

## TMS320VC5471ZHKA
designator U?
TMS320C54x DSP and ARM7TDMI 16/32-Bit RISC MCU, 72K x 16-bit SRAM, 257-ball BGA, Pb-Free; Published: 30-Mar-2007; DatasheetVersion: revC, Dec-2002; PackageVersion: Feb-2006; PackageReference: ZHK257; Publisher: Altium Limited; PackageDescription: 257-Ball Plastic Ball Grid Array 0.8 mm Pitch - Pb-Free; ComponentLink1Description: Manufacturer Link; ComponentLink1URL: http://www.ti.com/; ComponentLink2Description: Datasheet; ComponentLink2URL: http://focus.ti.com/lit/ds/symlink/tms320vc5471.pdf
footprint ZHK257 (BGA, 257-Leads, Body 16x16mm, Pitch 0.8mm)
part A pins: B1 GPIO03 (io), B2 GPIO02 (io), C1 GPIO06/CLK16X_IRDA/SD_IRDA (io), C2 GPIO05/SDRAM_CKE (io), D1 GPIO08/RX_IRDA/RXIR_IRDA (io), D2 GPIO07/TX_IRDA/TXIR_IRDA (io), D3 GPIO04 (io), E1 GPIO11/CTS_MODEM (io), E2 GPIO10/RX_MODEM (io), F1 GPIO18/AUDIO_CLK (io), F2 GPIO13/DCD_MODEM (io), F3 GPIO12/RTS_MODEM (io), F5 GPIO09/TX_MODEM (io), G1 GPIO16/SDA (io), G2 GPIO14/MCUEN2 (io), G3 GPIO00 (io), H1 KBGPIO14/DSP_CLKOUT (io), H3 GPIO17/SCL (io), H6 GPIO19/TIMER_OUT (io), J1 KBGPIO02/~{ARM_OPC} (io), J2 KBGPIO03/~{ARM_MREQ} (io), J3 KBGPIO04/~{ARM_EXEC} (io), J5 KBGPIO06/~{ARM_FIQ} (io), J6 KBGPIO07/~{ARM_IRQ} (io), K1 KBGPIO13/DSP_TOUT (io), K2 KBGPIO11/~{DSP_IAQ} (io), K5 KBGPIO05/ARM_TBIT (io), K6 KBGPIO01/DSP_XF (io), L1 KBGPIO15/ARM_MCLK (io), L2 KBGPIO00 (io), L5 KBGPIO10/~{DSP_IACK} (io), L6 KBGPIO12/~{DSP_MSC} (io), M1 KBGPIO08 (io), M2 KBGPIO09 (io), M3 GPIO01 (io), M6 GPIO15/MCUEN1 (io)
part B pins: E18 DATA31 (io), E19 DATA29 (io), F14 DATA30 (io), F17 DATA28 (io), F18 DATA27 (io), F19 DATA26 (io), G14 DATA25 (io), G18 DATA24 (io), L14 DATA23 (io), L15 DATA22 (io), L18 DATA21 (io), L19 DATA20 (io), M15 DATA16 (io), M17 DATA17 (io), M18 DATA18 (io), M19 DATA19 (io), N17 DATA13 (io), N18 DATA14 (io), N19 DATA15 (io), P11 ADD14 (out), P12 ADD10/SDRAM_A10 (out), P13 ADD07/SDRAM_A07 (out), P15 DATA07 (io), P17 DATA10 (io), P18 DATA11 (io), P19 DATA12 (io), R11 ADD13 (out), R17 DATA06 (io), R18 DATA08 (io), R19 DATA09 (io), T19 DATA05 (io), U11 ADD15 (out), U13 ADD08/SDRAM_A08 (out), U14 ADD04/SDRAM_A04 (out), U15 ADD00/SDRAM_A00 (out), U16 ADD21/~{SDRAM_CAS} (out), U17 DATA00 (io), U18 DATA03 (io), U19 DATA04 (io), V11 ADD16 (out), V12 ADD11/SDRAM_A11 (out), V13 ADD09/SDRAM_A09 (out), V14 ADD05/SDRAM_A05 (out), V15 ADD02/SDRAM_A02 (out), V16 ADD19SDRAM_BA1 (out), V17 ADD22/~{SDRAM_RAS} (out), V18 DATA01 (io), V19 DATA02 (io), W11 ADD17 (out), W12 ADD12/SDRAM_A12 (out), W13 ADD01/SDRAM_A01 (out), W14 ADD06/SDRAM_A06 (out), W15 ADD03/SDRAM_A03 (out), W16 ADD18/SDRAM_BA0 (out), W17 ADD20/~{SDRAM_WE} (out)
part C pins: A2 DSP_R/~{W} (out), A3 ~{DSP_PS} (out), A4 ~{DSP_IOSTRB} (out), A6 DSP_D13 (out), A7 DSP_D10 (out), A8 DSP_D06 (out), A9 DSP_D02 (out), A10 DSP_A19 (out), A11 DSP_A15 (out), A12 DSP_A14 (out), A13 DSP_A11 (out), A14 DSP_A08 (out), A15 DSP_A04 (out), A16 DSP_A01 (out), B3 DSP_READY (in), B4 ~{DSP_IS} (out), B5 ~{DSP_DS} (out), B6 DSP_D14 (out), B7 DSP_D11 (out), B8 DSP_D07 (out), B9 DSP_D03 (out), B11 DSP_A16 (out), B12 DSP_A13 (out), B13 DSP_A10 (out), B14 DSP_A06 (out), B15 DSP_A03 (out), B16 DSP_A00 (out), C5 ~{DSP_INT}0 (in), C6 DSP_D15 (out), C10 DSP_D00 (out), C12 DSP_A12 (out), C13 DSP_A09 (out), C14 DSP_A05 (out), C15 DSP_A02 (out), E8 DSP_D09 (out), E9 DSP_D05 (out), E11 DSP_A17 (out), E13 DSP_A07 (out), F6 ~{DSP_MSTRB} (out), F7 DSP_D12 (out), F8 DSP_D08 (out), F9 DSP_D04 (out), F10 DSP_D01 (out), F11 DSP_A18 (out)
part D pins: A17 BDX1 (out), A18 BCLKR1 (io), B17 BCLKX1 (io), B18 BFSR1 (io), B19 BFSR0 (io), C16 BFSX1 (io), C17 BDR1 (in), C18 BCLKR0 (io), C19 BDR0 (in), D18 BCLKX0 (io), D19 BFSX0 (io), E17 BDX0 (out), G19 ~{SDRAM_CS} (out), H14 R/~{W} (out), H15 SDRAM_CLK (out), H18 ~{WAIT} (in), H19 ~{OE} (out), J14 ~{CS}3/ROMSIZE16 (io), J17 ~{CS}2 (out), J18 ~{CS}1 (out), J19 ~{CS}0 (out), K14 ~{BE}3/SDRAM_DQM3 (out), K15 ~{BE}2/SDRAM_DQM2 (out), K17 ~{BE}1/SDRAM_DQM1 (out), K19 ~{BE}0/SDRAM_DQM0 (out), M5 CLKX_SPI (out), N1 MCUDI/EXTERN0 (in), N2 MCUDO/EXTERN1 (io), N6 MCUEN0 (out), P1 CRS0 (in), P2 COL0 (in), P3 TXD00 (out), P6 TXD03 (out), P10 ~{RESET_OUT} (out), R1 TXD01 (out), R2 TXD02 (out), R3 TXEN0 (out), R10 ~{RESET} (in), T1 TCLK0 (in), T2 TXER0 (out), U1 RXER0 (in), U2 RCLK0 (in), U3 RXD01 (in), U4 RXD03 (in), U10 REFCLK (in), V1 RXDV0 (in), V2 RXD00 (in), W2 RXD02 (in), W18 CS4/BIGEND (io)
part E pins: R9 TDO (out), V8 ~{EMU}1 (io), V9 TDI (in), V10 ~{EMU}0 (io), W8 ~{TRST} (in), W9 TCK (in), W10 TMS (in)
part F pins: A5 CVDD (power), B10 CVDD (power), C3 VSS (power), C4 DVDD (power), C7 VSS (power), C8 DVDD (power), C9 VSS (power), C11 VSS (power), D17 VSS (power), E3 DVDD (power), E6 VSS (power), E7 DVDD (power), E10 DVDD (power), E12 DVDD (power), E14 DVDD (power), F12 VSS (power), F13 VSS (power), F15 DVDD (power), G5 CVDD (power), G6 VSS (power), G15 VSS (power), G17 CVDD (power), H2 VSS (power), H5 DVDD (power), H17 DVDD (power), J15 VSS (power), K3 CVDD (power), K18 DVDD (power), L3 VSS (power), L17 VSS (power), M14 DVDD (power), N3 DVDD (power), N5 VSS (power), N14 CVDD (power), N15 VSS (power), P5 CVDD (power), P9 DVDD (power), P14 VSS (power), R6 VSS (power), R8 CVDD (power), R12 DVDD (power), R13 CVDD (power), R14 DVDD (power), T3 DVDD (power), T17 VSS (power), T18 DVDD (power), U6 DVDD (power), U9 VSS (power), U12 VSS (power)
part G pins: E5 NC, P7 NC, P8 NC, R7 NC, U5 NC, U7 NC, U8 NC, V3 NC, V4 NC, V5 NC, V6 NC, V7 NC, W3 NC, W4 NC, W5 NC, W6 NC, W7 NC

## TMS470PLF111PGEI
designator U?
ARM7TDMI 16/32-Bit RISC Automotive MCU, 128KB Flash, 8KB SRAM, 144-pin LQFP, -40ºC to 85ºC, Pb-Free; Published: 30-Mar-2007; DatasheetVersion: Oct-2006; PackageVersion: Dec-1996; PackageReference: PGE144; Publisher: Altium Limited; PackageDescription: 144-Pin Thin Quad Flat Pack 0.5 mm Pitch; ComponentLink1Description: Manufacturer Link; ComponentLink1URL: http://www.ti.com/; ComponentLink2Description: Datasheet; ComponentLink2URL: http://focus.ti.com/lit/ds/symlink/tms470plf111.pdf
footprint PGE144_N (Thin QFP, 144-Leads, Body 20x20mm, Pitch 0.5mm, IPC Medium Density)
footprint PGE144_L (Thin QFP, 144-Leads, Body 20x20mm, Pitch 0.5mm, IPC High Density)
footprint PGE144_M (Thin QFP, 144-Leads, Body 20x20mm, Pitch 0.5mm, IPC Low Density)
part A pins: 14 GIOB[7]/INT[15] (io), 15 GIOB[6]/INT[14] (io), 16 GIOB[5]/INT[13] (io), 17 GIOB[4]/INT[12] (io), 18 GIOB[3]/INT[11] (io), 19 GIOB[2]/INT[10] (io), 20 GIOB[1]/INT[9] (io), 21 GIOB[0]/INT[8] (io), 58 GIOA[7]/INT[7] (io), 59 GIOA[6]/INT[6] (io), 88 GIOC[7]/INT[23] (io), 89 GIOC[6]/INT[22] (io), 90 GIOC[5]/INT[21] (io), 91 GIOC[4]/INT[20] (io), 94 GIOC[3]/INT[19] (io), 95 GIOC[2]/INT[18] (io), 96 GIOC[1]/INT[17] (io), 97 GIOC[0]/INT[16] (io), 105 GIOE[1] (io), 106 GIOE[0] (io), 109 GIOA[5]/INT[5] (io), 110 GIOA[4]/INT[4] (io), 111 GIOA[3]/INT[3] (io), 112 GIOA[2]/INT[2] (io), 113 GIOA[0]/INT[0] (io), 114 GIOA[1]/INT[1] (io), 119 GIOD[0]/INT[24] (io), 120 GIOD[1]/INT[25] (io), 122 GIOD[2]/INT[26] (io), 123 GIOD[3]/INT[27] (io), 124 GIOD[7]/INT[31] (io), 125 GIOD[6]/INT[30] (io), 143 GIOD[5]/INT[29] (io), 144 GIOD[4]/INT[28] (io)
part B pins: 29 HET[21] (io), 30 HET[22] (io), 31 HET[23] (io), 34 HET[24] (io), 35 HET[25] (io), 36 HET[26] (io), 37 HET[18] (io), 38 HET[19] (io), 41 HET[20] (io), 42 HET[0] (io), 43 HET[1] (io), 44 HET[2] (io), 45 HET[3] (io), 46 HET[4] (io), 51 HET[5] (io), 52 HET[6] (io), 53 HET[7] (io), 54 HET[8] (io), 71 ADIN[15] (in), 72 ADIN[14] (in), 73 ADIN[13] (in), 74 ADIN[12] (in), 75 ADIN[11] (in), 76 ADIN[10] (in), 77 ADIN[9] (in), 78 ADIN[8] (in), 79 ADIN[7] (in), 80 ADIN[6] (in), 82 ADIN[5] (in), 83 ADIN[4] (in), 84 ADIN[3] (in), 85 ADIN[2] (in), 86 ADIN[1] (in), 87 ADIN[0] (in), 117 HET[27] (io), 118 HET[28] (io), 129 HET[9] (io), 130 HET[10] (io), 131 HET[11] (io), 137 HET[12] (io), 138 HET[13] (io), 139 HET[14] (io), 140 HET[15] (io), 141 HET[16] (io), 142 HET[17] (io)
part C pins: 1 LIN1RX (io), 2 LIN1TX (io), 4 OSCIN (in), 5 OSCOUT (out), 7 SPICLK (io), 8 SPISIMO (io), 9 SPISOMI (io), 10 ~{SPISCS}[1] (io), 11 ~{SPISCS}[0] (io), 25 REGDIS (in), 26 AWD (io), 55 ~{SPISCS}[2] (io), 62 I2CSDA (io), 63 I2CSCL (io), 64 ~{PORRST} (in), 65 TEST, 66 ADEVT (io), 68 ADREFLO (in), 69 ADREFHI (in), 100 C2SIRX (io), 101 C2SITX (io), 102 C2SILPN (io), 107 LIN2RX (io), 108 LIN2TX (io), 121 ECLK (io), 126 CANSRX (io), 127 CANSTX (io), 128 ~{RST} (io), 134 FLTP2
part D pins: 22 TCK (in), 23 ~{TRST} (in), 24 TDO (out), 27 TDI (in), 28 TMS (in)
part E pins: 3 VSS (power), 6 VCC (power), 12 VCCIO (power), 13 VSSIO (power), 32 VCC (power), 33 VSS (power), 39 VCCIO (power), 40 VSSIO (power), 47 VCCIO (power), 48 VSSIO (power), 49 VCC (power), 50 VSS (power), 56 VCCIOR (power), 57 VSSIO (power), 60 VCC (power), 61 VSS (power), 67 VSSAD (power), 70 VCCAD (power), 81 VSSAD (power), 92 VCCIOR (power), 93 VSSIO (power), 98 VCC (power), 99 VSS (power), 103 VCCIOR (power), 104 VSSIO (power), 115 VCCIOR (power), 116 VSSIO (power), 132 VCCP (power), 133 VSS (power), 135 VCC (power), 136 VSS (power)